# Altium integrated library Atmel CPLD Proprietary.IntLib: 178 symbols (part 4 of 5)
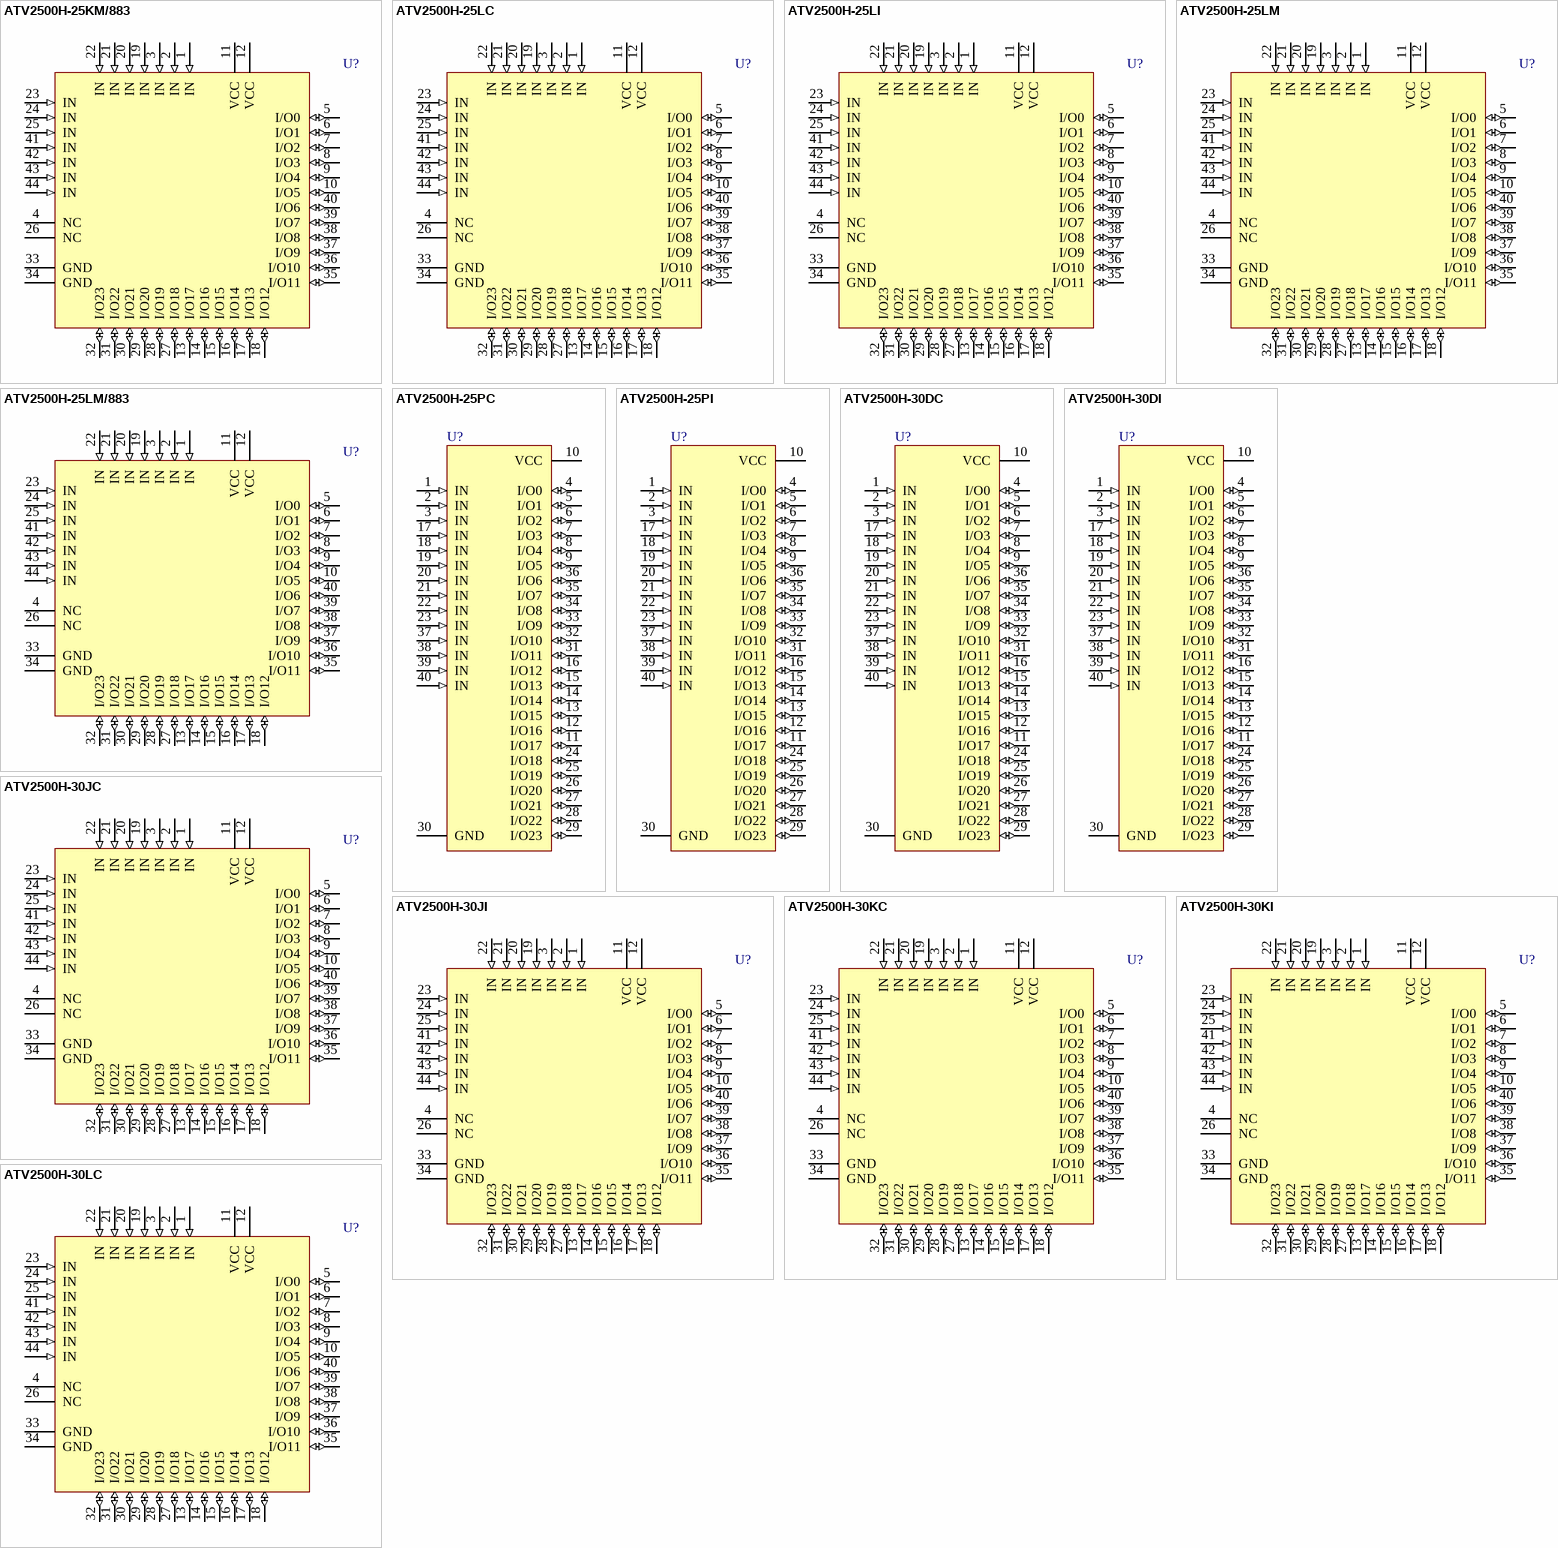
[diagram p13: symbols ATV2500H-25KM/883 to ATV2500H-30LC]

## ATV2500H-25LC
designator U?
ATV2500H 5.0V CPLD, 24 Macrocells, 44-pad Windowed LCC, Speed Grade 25, Commercial Grade; Note: Pin 4 and pin 26 are not internally connected.; DatasheetVersion: Rev. 0025E-05/98; PackageVersion: 1/12/1999; PackageReference: 44LW; PackageDescription: 44-Pin Window Ceramic Leadless Chip Carrier 1.27 mm Pitch; ComponentLink1Description: Manufacturer URL; ComponentLink1URL: http://www.atmel.com/
footprint 44LW_N (Leadless Chip Carrier, 44-Leads, Body 16.5x16.5mm, Pitch 1.27mm, IPC Medium Density)
footprint 44LW_L (Leadless Chip Carrier, 44-Leads, Body 16.5x16.5mm, Pitch 1.27mm, IPC High Density)
footprint 44LW_M (Leadless Chip Carrier, 44-Leads, Body 16.5x16.5mm, Pitch 1.27mm, IPC Low Density)
pins: 1 IN (in), 2 IN (in), 3 IN (in), 4 NC, 5 I/O0 (io), 6 I/O1 (io), 7 I/O2 (io), 8 I/O3 (io), 9 I/O4 (io), 10 I/O5 (io), 11 VCC (power), 12 VCC (power), 13 I/O17 (io), 14 I/O16 (io), 15 I/O15 (io), 16 I/O14 (io), 17 I/O13 (io), 18 I/O12 (io), 19 IN (in), 20 IN (in), 21 IN (in), 22 IN (in), 23 IN (in), 24 IN (in), 25 IN (in), 26 NC, 27 I/O18 (io), 28 I/O19 (io), 29 I/O20 (io), 30 I/O21 (io), 31 I/O22 (io), 32 I/O23 (io), 33 GND (power), 34 GND (power), 35 I/O11 (io), 36 I/O10 (io), 37 I/O9 (io), 38 I/O8 (io), 39 I/O7 (io), 40 I/O6 (io), 41 IN (in), 42 IN (in), 43 IN (in), 44 IN (in)

## ATV2500H-25LI
designator U?
ATV2500H 5.0V CPLD, 24 Macrocells, 44-pad Windowed LCC, Speed Grade 25, Industrial Grade; Note: Pin 4 and pin 26 are not internally connected.; DatasheetVersion: Rev. 0025E-05/98; PackageVersion: 1/12/1999; PackageReference: 44LW; PackageDescription: 44-Pin Window Ceramic Leadless Chip Carrier 1.27 mm Pitch; ComponentLink1Description: Manufacturer URL; ComponentLink1URL: http://www.atmel.com/
footprint 44LW_N (Leadless Chip Carrier, 44-Leads, Body 16.5x16.5mm, Pitch 1.27mm, IPC Medium Density)
footprint 44LW_L (Leadless Chip Carrier, 44-Leads, Body 16.5x16.5mm, Pitch 1.27mm, IPC High Density)
footprint 44LW_M (Leadless Chip Carrier, 44-Leads, Body 16.5x16.5mm, Pitch 1.27mm, IPC Low Density)
pins: 1 IN (in), 2 IN (in), 3 IN (in), 4 NC, 5 I/O0 (io), 6 I/O1 (io), 7 I/O2 (io), 8 I/O3 (io), 9 I/O4 (io), 10 I/O5 (io), 11 VCC (power), 12 VCC (power), 13 I/O17 (io), 14 I/O16 (io), 15 I/O15 (io), 16 I/O14 (io), 17 I/O13 (io), 18 I/O12 (io), 19 IN (in), 20 IN (in), 21 IN (in), 22 IN (in), 23 IN (in), 24 IN (in), 25 IN (in), 26 NC, 27 I/O18 (io), 28 I/O19 (io), 29 I/O20 (io), 30 I/O21 (io), 31 I/O22 (io), 32 I/O23 (io), 33 GND (power), 34 GND (power), 35 I/O11 (io), 36 I/O10 (io), 37 I/O9 (io), 38 I/O8 (io), 39 I/O7 (io), 40 I/O6 (io), 41 IN (in), 42 IN (in), 43 IN (in), 44 IN (in)

## ATV2500H-25LM
designator U?
ATV2500H 5.0V CPLD, 24 Macrocells, 44-pad Windowed LCC, Speed Grade 25, Military Grade; Note: Pin 4 and pin 26 are not internally connected.; DatasheetVersion: Rev. 0025E-05/98; PackageVersion: 1/12/1999; PackageReference: 44LW; PackageDescription: 44-Pin Window Ceramic Leadless Chip Carrier 1.27 mm Pitch; ComponentLink1Description: Manufacturer URL; ComponentLink1URL: http://www.atmel.com/
footprint 44LW_N (Leadless Chip Carrier, 44-Leads, Body 16.5x16.5mm, Pitch 1.27mm, IPC Medium Density)
footprint 44LW_L (Leadless Chip Carrier, 44-Leads, Body 16.5x16.5mm, Pitch 1.27mm, IPC High Density)
footprint 44LW_M (Leadless Chip Carrier, 44-Leads, Body 16.5x16.5mm, Pitch 1.27mm, IPC Low Density)
pins: 1 IN (in), 2 IN (in), 3 IN (in), 4 NC, 5 I/O0 (io), 6 I/O1 (io), 7 I/O2 (io), 8 I/O3 (io), 9 I/O4 (io), 10 I/O5 (io), 11 VCC (power), 12 VCC (power), 13 I/O17 (io), 14 I/O16 (io), 15 I/O15 (io), 16 I/O14 (io), 17 I/O13 (io), 18 I/O12 (io), 19 IN (in), 20 IN (in), 21 IN (in), 22 IN (in), 23 IN (in), 24 IN (in), 25 IN (in), 26 NC, 27 I/O18 (io), 28 I/O19 (io), 29 I/O20 (io), 30 I/O21 (io), 31 I/O22 (io), 32 I/O23 (io), 33 GND (power), 34 GND (power), 35 I/O11 (io), 36 I/O10 (io), 37 I/O9 (io), 38 I/O8 (io), 39 I/O7 (io), 40 I/O6 (io), 41 IN (in), 42 IN (in), 43 IN (in), 44 IN (in)

## ATV2500H-25LM/883
designator U?
ATV2500H 5.0V CPLD, 24 Macrocells, 44-pad Windowed LCC, Speed Grade 25, Military/883C Grade; Note: Pin 4 and pin 26 are not internally connected.; DatasheetVersion: Rev. 0025E-05/98; PackageVersion: 1/12/1999; PackageReference: 44LW; PackageDescription: 44-Pin Window Ceramic Leadless Chip Carrier 1.27 mm Pitch; ComponentLink1Description: Manufacturer URL; ComponentLink1URL: http://www.atmel.com/
footprint 44LW_N (Leadless Chip Carrier, 44-Leads, Body 16.5x16.5mm, Pitch 1.27mm, IPC Medium Density)
footprint 44LW_L (Leadless Chip Carrier, 44-Leads, Body 16.5x16.5mm, Pitch 1.27mm, IPC High Density)
footprint 44LW_M (Leadless Chip Carrier, 44-Leads, Body 16.5x16.5mm, Pitch 1.27mm, IPC Low Density)
pins: 1 IN (in), 2 IN (in), 3 IN (in), 4 NC, 5 I/O0 (io), 6 I/O1 (io), 7 I/O2 (io), 8 I/O3 (io), 9 I/O4 (io), 10 I/O5 (io), 11 VCC (power), 12 VCC (power), 13 I/O17 (io), 14 I/O16 (io), 15 I/O15 (io), 16 I/O14 (io), 17 I/O13 (io), 18 I/O12 (io), 19 IN (in), 20 IN (in), 21 IN (in), 22 IN (in), 23 IN (in), 24 IN (in), 25 IN (in), 26 NC, 27 I/O18 (io), 28 I/O19 (io), 29 I/O20 (io), 30 I/O21 (io), 31 I/O22 (io), 32 I/O23 (io), 33 GND (power), 34 GND (power), 35 I/O11 (io), 36 I/O10 (io), 37 I/O9 (io), 38 I/O8 (io), 39 I/O7 (io), 40 I/O6 (io), 41 IN (in), 42 IN (in), 43 IN (in), 44 IN (in)

## ATV2500H-25PC
designator U?
ATV2500H 5.0V CPLD, 24 Macrocells, 40-lead PDIP, Speed Grade 25, Commercial Grade; DatasheetVersion: Rev. 0025E-05/98; PackageVersion: revB, Sep-2001; PackageReference: 40P6; PackageDescription: 40-lead (0.600"/15.24mm Wide) Plastic Dual Inline Package (PDIP); Code_JEDEC: MS-011-AC; ComponentLink1Description: Manufacturer URL; ComponentLink1URL: http://www.atmel.com/
footprint 40P6 (DIP, 40-Leads, Row Spacing 15.24mm, Pitch 2.54mm, Body 52.2x13.95mm)
pins: 1 IN (in), 2 IN (in), 3 IN (in), 4 I/O0 (io), 5 I/O1 (io), 6 I/O2 (io), 7 I/O3 (io), 8 I/O4 (io), 9 I/O5 (io), 10 VCC (power), 11 I/O17 (io), 12 I/O16 (io), 13 I/O15 (io), 14 I/O14 (io), 15 I/O13 (io), 16 I/O12 (io), 17 IN (in), 18 IN (in), 19 IN (in), 20 IN (in), 21 IN (in), 22 IN (in), 23 IN (in), 24 I/O18 (io), 25 I/O19 (io), 26 I/O20 (io), 27 I/O21 (io), 28 I/O22 (io), 29 I/O23 (io), 30 GND (power), 31 I/O11 (io), 32 I/O10 (io), 33 I/O9 (io), 34 I/O8 (io), 35 I/O7 (io), 36 I/O6 (io), 37 IN (in), 38 IN (in), 39 IN (in), 40 IN (in)

## ATV2500H-25PI
designator U?
ATV2500H 5.0V CPLD, 24 Macrocells, 40-lead PDIP, Speed Grade 25, Industrial Grade; DatasheetVersion: Rev. 0025E-05/98; PackageVersion: revB, Sep-2001; PackageReference: 40P6; PackageDescription: 40-lead (0.600"/15.24mm Wide) Plastic Dual Inline Package (PDIP); Code_JEDEC: MS-011-AC; ComponentLink1Description: Manufacturer URL; ComponentLink1URL: http://www.atmel.com/
footprint 40P6 (DIP, 40-Leads, Row Spacing 15.24mm, Pitch 2.54mm, Body 52.2x13.95mm)
pins: 1 IN (in), 2 IN (in), 3 IN (in), 4 I/O0 (io), 5 I/O1 (io), 6 I/O2 (io), 7 I/O3 (io), 8 I/O4 (io), 9 I/O5 (io), 10 VCC (power), 11 I/O17 (io), 12 I/O16 (io), 13 I/O15 (io), 14 I/O14 (io), 15 I/O13 (io), 16 I/O12 (io), 17 IN (in), 18 IN (in), 19 IN (in), 20 IN (in), 21 IN (in), 22 IN (in), 23 IN (in), 24 I/O18 (io), 25 I/O19 (io), 26 I/O20 (io), 27 I/O21 (io), 28 I/O22 (io), 29 I/O23 (io), 30 GND (power), 31 I/O11 (io), 32 I/O10 (io), 33 I/O9 (io), 34 I/O8 (io), 35 I/O7 (io), 36 I/O6 (io), 37 IN (in), 38 IN (in), 39 IN (in), 40 IN (in)

## ATV2500H-30DC
designator U?
ATV2500H 5.0V CPLD, 24 Macrocells, 40-lead Windowed CerDIP, Speed Grade 30, Commercial Grade; DatasheetVersion: Rev. 0025E-05/98; PackageVersion: 1/12/1999; PackageReference: 40DW6; PackageDescription: DIP, 40-Pin, Row Spacing 15.24 mm, Pitch 2.54 mm; Code_JEDEC: MS-011-AC; ComponentLink1Description: Manufacturer URL; ComponentLink1URL: http://www.atmel.com/
footprint 40DW6 (DIP, 40-Leads, Row Spacing 15.24mm, Pitch 2.54mm, Body 52.45x15mm)
pins: 1 IN (in), 2 IN (in), 3 IN (in), 4 I/O0 (io), 5 I/O1 (io), 6 I/O2 (io), 7 I/O3 (io), 8 I/O4 (io), 9 I/O5 (io), 10 VCC (power), 11 I/O17 (io), 12 I/O16 (io), 13 I/O15 (io), 14 I/O14 (io), 15 I/O13 (io), 16 I/O12 (io), 17 IN (in), 18 IN (in), 19 IN (in), 20 IN (in), 21 IN (in), 22 IN (in), 23 IN (in), 24 I/O18 (io), 25 I/O19 (io), 26 I/O20 (io), 27 I/O21 (io), 28 I/O22 (io), 29 I/O23 (io), 30 GND (power), 31 I/O11 (io), 32 I/O10 (io), 33 I/O9 (io), 34 I/O8 (io), 35 I/O7 (io), 36 I/O6 (io), 37 IN (in), 38 IN (in), 39 IN (in), 40 IN (in)

## ATV2500H-30DI
designator U?
ATV2500H 5.0V CPLD, 24 Macrocells, 40-lead Windowed CerDIP, Speed Grade 30, Industrial Grade; DatasheetVersion: Rev. 0025E-05/98; PackageVersion: 1/12/1999; PackageReference: 40DW6; PackageDescription: DIP, 40-Pin, Row Spacing 15.24 mm, Pitch 2.54 mm; Code_JEDEC: MS-011-AC; ComponentLink1Description: Manufacturer URL; ComponentLink1URL: http://www.atmel.com/
footprint 40DW6 (DIP, 40-Leads, Row Spacing 15.24mm, Pitch 2.54mm, Body 52.45x15mm)
pins: 1 IN (in), 2 IN (in), 3 IN (in), 4 I/O0 (io), 5 I/O1 (io), 6 I/O2 (io), 7 I/O3 (io), 8 I/O4 (io), 9 I/O5 (io), 10 VCC (power), 11 I/O17 (io), 12 I/O16 (io), 13 I/O15 (io), 14 I/O14 (io), 15 I/O13 (io), 16 I/O12 (io), 17 IN (in), 18 IN (in), 19 IN (in), 20 IN (in), 21 IN (in), 22 IN (in), 23 IN (in), 24 I/O18 (io), 25 I/O19 (io), 26 I/O20 (io), 27 I/O21 (io), 28 I/O22 (io), 29 I/O23 (io), 30 GND (power), 31 I/O11 (io), 32 I/O10 (io), 33 I/O9 (io), 34 I/O8 (io), 35 I/O7 (io), 36 I/O6 (io), 37 IN (in), 38 IN (in), 39 IN (in), 40 IN (in)

## ATV2500H-30JC
designator U?
ATV2500H 5.0V CPLD, 24 Macrocells, 44-lead Non-windowed (OTP) PLCC, Speed Grade 30, Commercial Grade; Note: Pin 4 and pin 26 are not internally connected.; DatasheetVersion: Rev. 0025E-05/98; PackageVersion: rev.B, Oct-2001; PackageReference: 44J; PackageDescription: 44-Pin Plastic J-Leaded Chip Carrier 1.27 mm Pitch (PLCC); Code_JEDEC: MS-018-AC; Code_IPC: PLCC-44; ComponentLink1Description: Manufacturer URL; ComponentLink1URL: http://www.atmel.com/
footprint 44J_N (Leaded Chip Carrier, 44-Leads, Body 16.6x16.6mm, Pitch 1.27mm, IPC Medium Density)
footprint 44J_L (Leaded Chip Carrier, 44-Leads, Body 16.6x16.6mm, Pitch 1.27mm, IPC High Density)
footprint 44J_M (Leaded Chip Carrier, 44-Leads, Body 16.6x16.6mm, Pitch 1.27mm, IPC Low Density)
pins: 1 IN (in), 2 IN (in), 3 IN (in), 4 NC, 5 I/O0 (io), 6 I/O1 (io), 7 I/O2 (io), 8 I/O3 (io), 9 I/O4 (io), 10 I/O5 (io), 11 VCC (power), 12 VCC (power), 13 I/O17 (io), 14 I/O16 (io), 15 I/O15 (io), 16 I/O14 (io), 17 I/O13 (io), 18 I/O12 (io), 19 IN (in), 20 IN (in), 21 IN (in), 22 IN (in), 23 IN (in), 24 IN (in), 25 IN (in), 26 NC, 27 I/O18 (io), 28 I/O19 (io), 29 I/O20 (io), 30 I/O21 (io), 31 I/O22 (io), 32 I/O23 (io), 33 GND (power), 34 GND (power), 35 I/O11 (io), 36 I/O10 (io), 37 I/O9 (io), 38 I/O8 (io), 39 I/O7 (io), 40 I/O6 (io), 41 IN (in), 42 IN (in), 43 IN (in), 44 IN (in)

## ATV2500H-30JI
designator U?
ATV2500H 5.0V CPLD, 24 Macrocells, 44-lead Non-windowed (OTP) PLCC, Speed Grade 30, Industrial Grade; Note: Pin 4 and pin 26 are not internally connected.; DatasheetVersion: Rev. 0025E-05/98; PackageVersion: rev.B, Oct-2001; PackageReference: 44J; PackageDescription: 44-Pin Plastic J-Leaded Chip Carrier 1.27 mm Pitch (PLCC); Code_JEDEC: MS-018-AC; Code_IPC: PLCC-44; ComponentLink1Description: Manufacturer URL; ComponentLink1URL: http://www.atmel.com/
footprint 44J_N (Leaded Chip Carrier, 44-Leads, Body 16.6x16.6mm, Pitch 1.27mm, IPC Medium Density)
footprint 44J_L (Leaded Chip Carrier, 44-Leads, Body 16.6x16.6mm, Pitch 1.27mm, IPC High Density)
footprint 44J_M (Leaded Chip Carrier, 44-Leads, Body 16.6x16.6mm, Pitch 1.27mm, IPC Low Density)
pins: 1 IN (in), 2 IN (in), 3 IN (in), 4 NC, 5 I/O0 (io), 6 I/O1 (io), 7 I/O2 (io), 8 I/O3 (io), 9 I/O4 (io), 10 I/O5 (io), 11 VCC (power), 12 VCC (power), 13 I/O17 (io), 14 I/O16 (io), 15 I/O15 (io), 16 I/O14 (io), 17 I/O13 (io), 18 I/O12 (io), 19 IN (in), 20 IN (in), 21 IN (in), 22 IN (in), 23 IN (in), 24 IN (in), 25 IN (in), 26 NC, 27 I/O18 (io), 28 I/O19 (io), 29 I/O20 (io), 30 I/O21 (io), 31 I/O22 (io), 32 I/O23 (io), 33 GND (power), 34 GND (power), 35 I/O11 (io), 36 I/O10 (io), 37 I/O9 (io), 38 I/O8 (io), 39 I/O7 (io), 40 I/O6 (io), 41 IN (in), 42 IN (in), 43 IN (in), 44 IN (in)

## ATV2500H-30KC
designator U?
ATV2500H 5.0V CPLD, 24 Macrocells, 44-lead Windowed JLCC, Speed Grade 30, Commercial Grade; Note: Pin 4 and pin 26 are not internally connected.; DatasheetVersion: Rev. 0025E-05/98; PackageVersion: 1/12/1999; PackageReference: 44KW; PackageDescription: 44-Pin Window Ceramic Leaded Chip Carrier 1.27 mm Pitch; Code_IPC: PLCC-44; ComponentLink1Description: Manufacturer URL; ComponentLink1URL: http://www.atmel.com/
footprint 44KW_N (Leaded Chip Carrier, 44-Leads, Body 16.7x16.7mm, Pitch 1.27mm, IPC Medium Density)
footprint 44KW_L (Leaded Chip Carrier, 44-Leads, Body 16.7x16.7mm, Pitch 1.27mm, IPC High Density)
footprint 44KW_M (Leaded Chip Carrier, 44-Leads, Body 16.7x16.7mm, Pitch 1.27mm, IPC Low Density)
pins: 1 IN (in), 2 IN (in), 3 IN (in), 4 NC, 5 I/O0 (io), 6 I/O1 (io), 7 I/O2 (io), 8 I/O3 (io), 9 I/O4 (io), 10 I/O5 (io), 11 VCC (power), 12 VCC (power), 13 I/O17 (io), 14 I/O16 (io), 15 I/O15 (io), 16 I/O14 (io), 17 I/O13 (io), 18 I/O12 (io), 19 IN (in), 20 IN (in), 21 IN (in), 22 IN (in), 23 IN (in), 24 IN (in), 25 IN (in), 26 NC, 27 I/O18 (io), 28 I/O19 (io), 29 I/O20 (io), 30 I/O21 (io), 31 I/O22 (io), 32 I/O23 (io), 33 GND (power), 34 GND (power), 35 I/O11 (io), 36 I/O10 (io), 37 I/O9 (io), 38 I/O8 (io), 39 I/O7 (io), 40 I/O6 (io), 41 IN (in), 42 IN (in), 43 IN (in), 44 IN (in)

## ATV2500H-30KI
designator U?
ATV2500H 5.0V CPLD, 24 Macrocells, 44-lead Windowed JLCC, Speed Grade 30, Industrial Grade; Note: Pin 4 and pin 26 are not internally connected.; DatasheetVersion: Rev. 0025E-05/98; PackageVersion: 1/12/1999; PackageReference: 44KW; PackageDescription: 44-Pin Window Ceramic Leaded Chip Carrier 1.27 mm Pitch; Code_IPC: PLCC-44; ComponentLink1Description: Manufacturer URL; ComponentLink1URL: http://www.atmel.com/
footprint 44KW_N (Leaded Chip Carrier, 44-Leads, Body 16.7x16.7mm, Pitch 1.27mm, IPC Medium Density)
footprint 44KW_L (Leaded Chip Carrier, 44-Leads, Body 16.7x16.7mm, Pitch 1.27mm, IPC High Density)
footprint 44KW_M (Leaded Chip Carrier, 44-Leads, Body 16.7x16.7mm, Pitch 1.27mm, IPC Low Density)
pins: 1 IN (in), 2 IN (in), 3 IN (in), 4 NC, 5 I/O0 (io), 6 I/O1 (io), 7 I/O2 (io), 8 I/O3 (io), 9 I/O4 (io), 10 I/O5 (io), 11 VCC (power), 12 VCC (power), 13 I/O17 (io), 14 I/O16 (io), 15 I/O15 (io), 16 I/O14 (io), 17 I/O13 (io), 18 I/O12 (io), 19 IN (in), 20 IN (in), 21 IN (in), 22 IN (in), 23 IN (in), 24 IN (in), 25 IN (in), 26 NC, 27 I/O18 (io), 28 I/O19 (io), 29 I/O20 (io), 30 I/O21 (io), 31 I/O22 (io), 32 I/O23 (io), 33 GND (power), 34 GND (power), 35 I/O11 (io), 36 I/O10 (io), 37 I/O9 (io), 38 I/O8 (io), 39 I/O7 (io), 40 I/O6 (io), 41 IN (in), 42 IN (in), 43 IN (in), 44 IN (in)

## ATV2500H-30LC
designator U?
ATV2500H 5.0V CPLD, 24 Macrocells, 44-pad Windowed LCC, Speed Grade 30, Commercial Grade; Note: Pin 4 and pin 26 are not internally connected.; DatasheetVersion: Rev. 0025E-05/98; PackageVersion: 1/12/1999; PackageReference: 44LW; PackageDescription: 44-Pin Window Ceramic Leadless Chip Carrier 1.27 mm Pitch; ComponentLink1Description: Manufacturer URL; ComponentLink1URL: http://www.atmel.com/
footprint 44LW_N (Leadless Chip Carrier, 44-Leads, Body 16.5x16.5mm, Pitch 1.27mm, IPC Medium Density)
footprint 44LW_L (Leadless Chip Carrier, 44-Leads, Body 16.5x16.5mm, Pitch 1.27mm, IPC High Density)
footprint 44LW_M (Leadless Chip Carrier, 44-Leads, Body 16.5x16.5mm, Pitch 1.27mm, IPC Low Density)
pins: 1 IN (in), 2 IN (in), 3 IN (in), 4 NC, 5 I/O0 (io), 6 I/O1 (io), 7 I/O2 (io), 8 I/O3 (io), 9 I/O4 (io), 10 I/O5 (io), 11 VCC (power), 12 VCC (power), 13 I/O17 (io), 14 I/O16 (io), 15 I/O15 (io), 16 I/O14 (io), 17 I/O13 (io), 18 I/O12 (io), 19 IN (in), 20 IN (in), 21 IN (in), 22 IN (in), 23 IN (in), 24 IN (in), 25 IN (in), 26 NC, 27 I/O18 (io), 28 I/O19 (io), 29 I/O20 (io), 30 I/O21 (io), 31 I/O22 (io), 32 I/O23 (io), 33 GND (power), 34 GND (power), 35 I/O11 (io), 36 I/O10 (io), 37 I/O9 (io), 38 I/O8 (io), 39 I/O7 (io), 40 I/O6 (io), 41 IN (in), 42 IN (in), 43 IN (in), 44 IN (in)

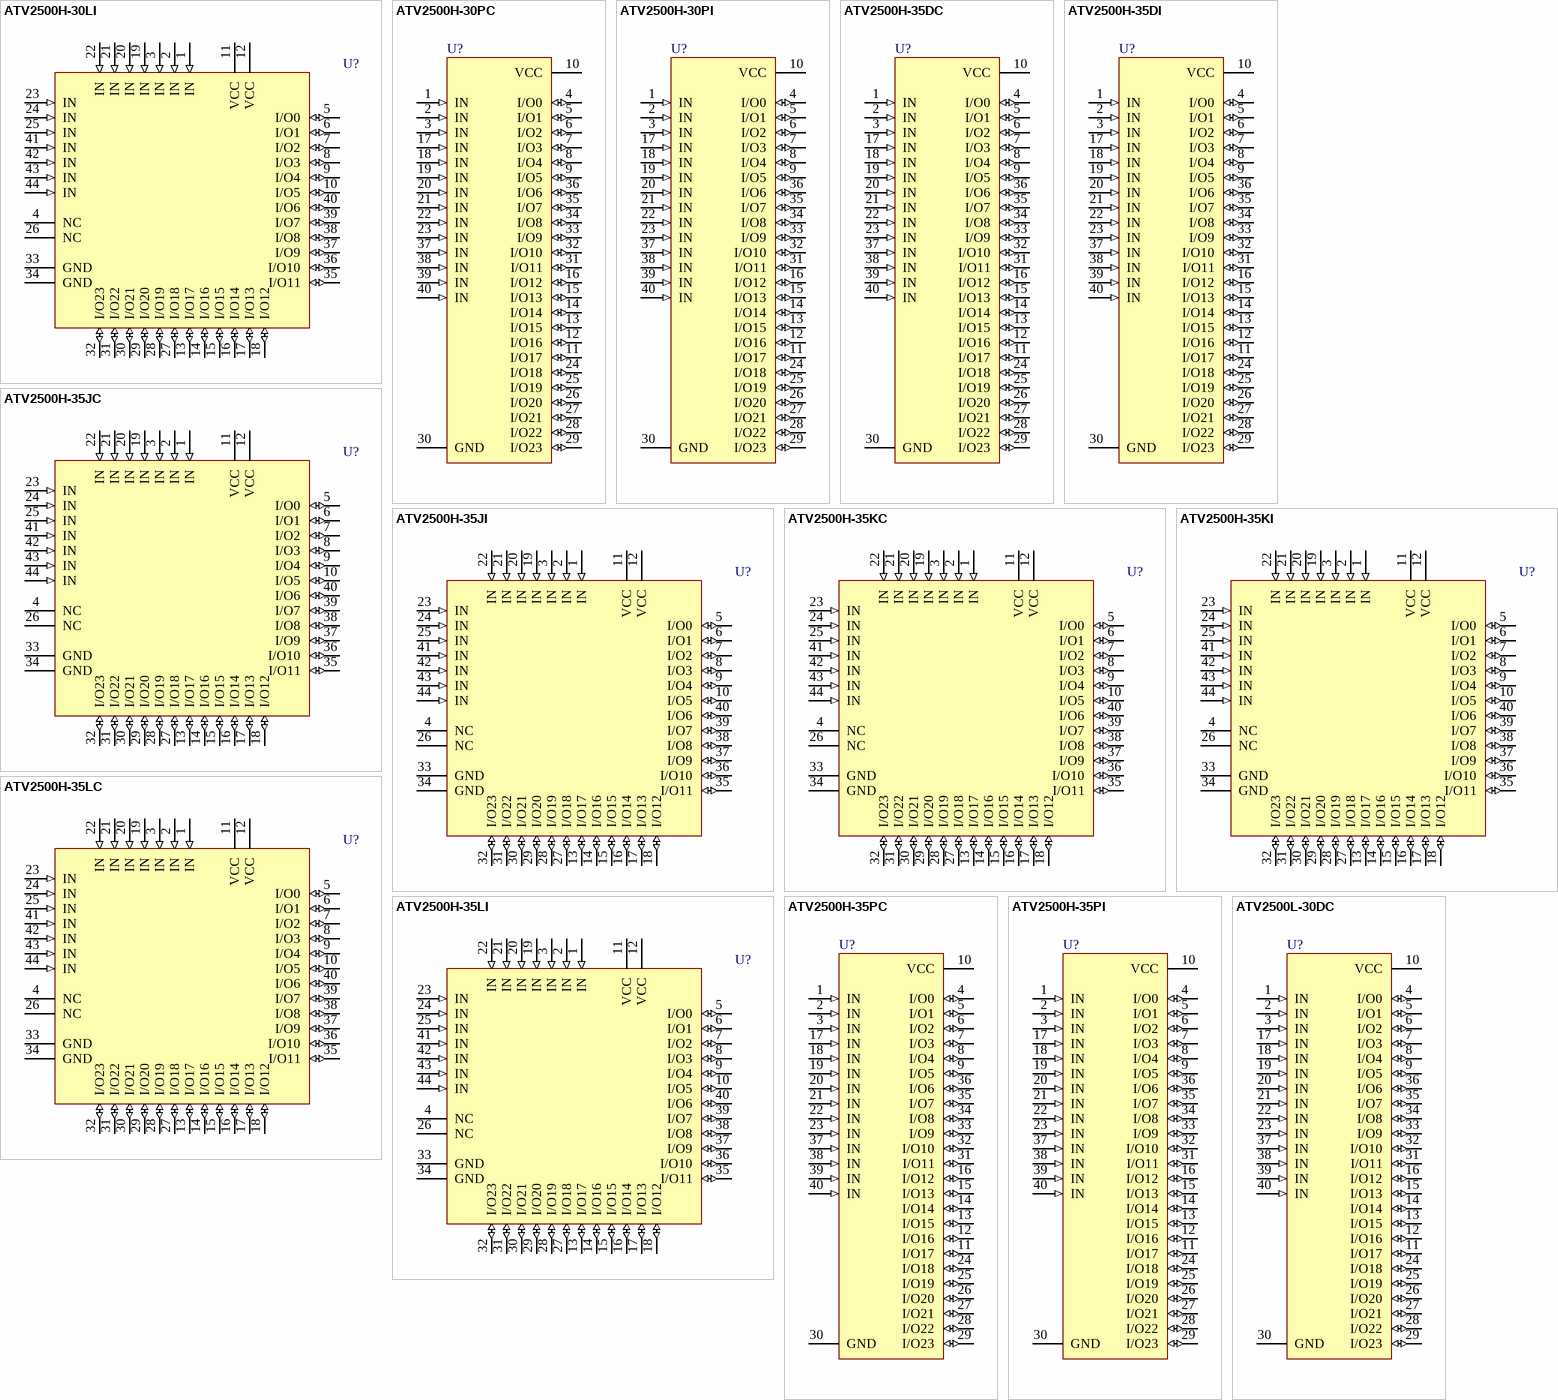
[diagram p8: symbols ATV2500H-30LI to ATV2500L-30DC]

## ATV2500H-30LI
designator U?
ATV2500H 5.0V CPLD, 24 Macrocells, 44-pad Windowed LCC, Speed Grade 30, Industrial Grade; Note: Pin 4 and pin 26 are not internally connected.; DatasheetVersion: Rev. 0025E-05/98; PackageVersion: 1/12/1999; PackageReference: 44LW; PackageDescription: 44-Pin Window Ceramic Leadless Chip Carrier 1.27 mm Pitch; ComponentLink1Description: Manufacturer URL; ComponentLink1URL: http://www.atmel.com/
footprint 44LW_N (Leadless Chip Carrier, 44-Leads, Body 16.5x16.5mm, Pitch 1.27mm, IPC Medium Density)
footprint 44LW_L (Leadless Chip Carrier, 44-Leads, Body 16.5x16.5mm, Pitch 1.27mm, IPC High Density)
footprint 44LW_M (Leadless Chip Carrier, 44-Leads, Body 16.5x16.5mm, Pitch 1.27mm, IPC Low Density)
pins: 1 IN (in), 2 IN (in), 3 IN (in), 4 NC, 5 I/O0 (io), 6 I/O1 (io), 7 I/O2 (io), 8 I/O3 (io), 9 I/O4 (io), 10 I/O5 (io), 11 VCC (power), 12 VCC (power), 13 I/O17 (io), 14 I/O16 (io), 15 I/O15 (io), 16 I/O14 (io), 17 I/O13 (io), 18 I/O12 (io), 19 IN (in), 20 IN (in), 21 IN (in), 22 IN (in), 23 IN (in), 24 IN (in), 25 IN (in), 26 NC, 27 I/O18 (io), 28 I/O19 (io), 29 I/O20 (io), 30 I/O21 (io), 31 I/O22 (io), 32 I/O23 (io), 33 GND (power), 34 GND (power), 35 I/O11 (io), 36 I/O10 (io), 37 I/O9 (io), 38 I/O8 (io), 39 I/O7 (io), 40 I/O6 (io), 41 IN (in), 42 IN (in), 43 IN (in), 44 IN (in)

## ATV2500H-30PC
designator U?
ATV2500H 5.0V CPLD, 24 Macrocells, 40-lead PDIP, Speed Grade 30, Commercial Grade; DatasheetVersion: Rev. 0025E-05/98; PackageVersion: revB, Sep-2001; PackageReference: 40P6; PackageDescription: 40-lead (0.600"/15.24mm Wide) Plastic Dual Inline Package (PDIP); Code_JEDEC: MS-011-AC; ComponentLink1Description: Manufacturer URL; ComponentLink1URL: http://www.atmel.com/
footprint 40P6 (DIP, 40-Leads, Row Spacing 15.24mm, Pitch 2.54mm, Body 52.2x13.95mm)
pins: 1 IN (in), 2 IN (in), 3 IN (in), 4 I/O0 (io), 5 I/O1 (io), 6 I/O2 (io), 7 I/O3 (io), 8 I/O4 (io), 9 I/O5 (io), 10 VCC (power), 11 I/O17 (io), 12 I/O16 (io), 13 I/O15 (io), 14 I/O14 (io), 15 I/O13 (io), 16 I/O12 (io), 17 IN (in), 18 IN (in), 19 IN (in), 20 IN (in), 21 IN (in), 22 IN (in), 23 IN (in), 24 I/O18 (io), 25 I/O19 (io), 26 I/O20 (io), 27 I/O21 (io), 28 I/O22 (io), 29 I/O23 (io), 30 GND (power), 31 I/O11 (io), 32 I/O10 (io), 33 I/O9 (io), 34 I/O8 (io), 35 I/O7 (io), 36 I/O6 (io), 37 IN (in), 38 IN (in), 39 IN (in), 40 IN (in)

## ATV2500H-30PI
designator U?
ATV2500H 5.0V CPLD, 24 Macrocells, 40-lead PDIP, Speed Grade 30, Industrial Grade; DatasheetVersion: Rev. 0025E-05/98; PackageVersion: revB, Sep-2001; PackageReference: 40P6; PackageDescription: 40-lead (0.600"/15.24mm Wide) Plastic Dual Inline Package (PDIP); Code_JEDEC: MS-011-AC; ComponentLink1Description: Manufacturer URL; ComponentLink1URL: http://www.atmel.com/
footprint 40P6 (DIP, 40-Leads, Row Spacing 15.24mm, Pitch 2.54mm, Body 52.2x13.95mm)
pins: 1 IN (in), 2 IN (in), 3 IN (in), 4 I/O0 (io), 5 I/O1 (io), 6 I/O2 (io), 7 I/O3 (io), 8 I/O4 (io), 9 I/O5 (io), 10 VCC (power), 11 I/O17 (io), 12 I/O16 (io), 13 I/O15 (io), 14 I/O14 (io), 15 I/O13 (io), 16 I/O12 (io), 17 IN (in), 18 IN (in), 19 IN (in), 20 IN (in), 21 IN (in), 22 IN (in), 23 IN (in), 24 I/O18 (io), 25 I/O19 (io), 26 I/O20 (io), 27 I/O21 (io), 28 I/O22 (io), 29 I/O23 (io), 30 GND (power), 31 I/O11 (io), 32 I/O10 (io), 33 I/O9 (io), 34 I/O8 (io), 35 I/O7 (io), 36 I/O6 (io), 37 IN (in), 38 IN (in), 39 IN (in), 40 IN (in)

## ATV2500H-35DC
designator U?
ATV2500H 5.0V CPLD, 24 Macrocells, 40-lead Windowed CerDIP, Speed Grade 35, Commercial Grade; DatasheetVersion: Rev. 0025E-05/98; PackageVersion: 1/12/1999; PackageReference: 40DW6; PackageDescription: DIP, 40-Pin, Row Spacing 15.24 mm, Pitch 2.54 mm; Code_JEDEC: MS-011-AC; ComponentLink1Description: Manufacturer URL; ComponentLink1URL: http://www.atmel.com/
footprint 40DW6 (DIP, 40-Leads, Row Spacing 15.24mm, Pitch 2.54mm, Body 52.45x15mm)
pins: 1 IN (in), 2 IN (in), 3 IN (in), 4 I/O0 (io), 5 I/O1 (io), 6 I/O2 (io), 7 I/O3 (io), 8 I/O4 (io), 9 I/O5 (io), 10 VCC (power), 11 I/O17 (io), 12 I/O16 (io), 13 I/O15 (io), 14 I/O14 (io), 15 I/O13 (io), 16 I/O12 (io), 17 IN (in), 18 IN (in), 19 IN (in), 20 IN (in), 21 IN (in), 22 IN (in), 23 IN (in), 24 I/O18 (io), 25 I/O19 (io), 26 I/O20 (io), 27 I/O21 (io), 28 I/O22 (io), 29 I/O23 (io), 30 GND (power), 31 I/O11 (io), 32 I/O10 (io), 33 I/O9 (io), 34 I/O8 (io), 35 I/O7 (io), 36 I/O6 (io), 37 IN (in), 38 IN (in), 39 IN (in), 40 IN (in)

## ATV2500H-35DI
designator U?
ATV2500H 5.0V CPLD, 24 Macrocells, 40-lead Windowed CerDIP, Speed Grade 35, Industrial Grade; DatasheetVersion: Rev. 0025E-05/98; PackageVersion: 1/12/1999; PackageReference: 40DW6; PackageDescription: DIP, 40-Pin, Row Spacing 15.24 mm, Pitch 2.54 mm; Code_JEDEC: MS-011-AC; ComponentLink1Description: Manufacturer URL; ComponentLink1URL: http://www.atmel.com/
footprint 40DW6 (DIP, 40-Leads, Row Spacing 15.24mm, Pitch 2.54mm, Body 52.45x15mm)
pins: 1 IN (in), 2 IN (in), 3 IN (in), 4 I/O0 (io), 5 I/O1 (io), 6 I/O2 (io), 7 I/O3 (io), 8 I/O4 (io), 9 I/O5 (io), 10 VCC (power), 11 I/O17 (io), 12 I/O16 (io), 13 I/O15 (io), 14 I/O14 (io), 15 I/O13 (io), 16 I/O12 (io), 17 IN (in), 18 IN (in), 19 IN (in), 20 IN (in), 21 IN (in), 22 IN (in), 23 IN (in), 24 I/O18 (io), 25 I/O19 (io), 26 I/O20 (io), 27 I/O21 (io), 28 I/O22 (io), 29 I/O23 (io), 30 GND (power), 31 I/O11 (io), 32 I/O10 (io), 33 I/O9 (io), 34 I/O8 (io), 35 I/O7 (io), 36 I/O6 (io), 37 IN (in), 38 IN (in), 39 IN (in), 40 IN (in)

## ATV2500H-35JC
designator U?
ATV2500H 5.0V CPLD, 24 Macrocells, 44-lead Non-windowed (OTP) PLCC, Speed Grade 35, Commercial Grade; Note: Pin 4 and pin 26 are not internally connected.; DatasheetVersion: Rev. 0025E-05/98; PackageVersion: rev.B, Oct-2001; PackageReference: 44J; PackageDescription: 44-Pin Plastic J-Leaded Chip Carrier 1.27 mm Pitch (PLCC); Code_JEDEC: MS-018-AC; Code_IPC: PLCC-44; ComponentLink1Description: Manufacturer URL; ComponentLink1URL: http://www.atmel.com/
footprint 44J_N (Leaded Chip Carrier, 44-Leads, Body 16.6x16.6mm, Pitch 1.27mm, IPC Medium Density)
footprint 44J_L (Leaded Chip Carrier, 44-Leads, Body 16.6x16.6mm, Pitch 1.27mm, IPC High Density)
footprint 44J_M (Leaded Chip Carrier, 44-Leads, Body 16.6x16.6mm, Pitch 1.27mm, IPC Low Density)
pins: 1 IN (in), 2 IN (in), 3 IN (in), 4 NC, 5 I/O0 (io), 6 I/O1 (io), 7 I/O2 (io), 8 I/O3 (io), 9 I/O4 (io), 10 I/O5 (io), 11 VCC (power), 12 VCC (power), 13 I/O17 (io), 14 I/O16 (io), 15 I/O15 (io), 16 I/O14 (io), 17 I/O13 (io), 18 I/O12 (io), 19 IN (in), 20 IN (in), 21 IN (in), 22 IN (in), 23 IN (in), 24 IN (in), 25 IN (in), 26 NC, 27 I/O18 (io), 28 I/O19 (io), 29 I/O20 (io), 30 I/O21 (io), 31 I/O22 (io), 32 I/O23 (io), 33 GND (power), 34 GND (power), 35 I/O11 (io), 36 I/O10 (io), 37 I/O9 (io), 38 I/O8 (io), 39 I/O7 (io), 40 I/O6 (io), 41 IN (in), 42 IN (in), 43 IN (in), 44 IN (in)

## ATV2500H-35JI
designator U?
ATV2500H 5.0V CPLD, 24 Macrocells, 44-lead Non-windowed (OTP) PLCC, Speed Grade 35, Industrial Grade; Note: Pin 4 and pin 26 are not internally connected.; DatasheetVersion: Rev. 0025E-05/98; PackageVersion: rev.B, Oct-2001; PackageReference: 44J; PackageDescription: 44-Pin Plastic J-Leaded Chip Carrier 1.27 mm Pitch (PLCC); Code_JEDEC: MS-018-AC; Code_IPC: PLCC-44; ComponentLink1Description: Manufacturer URL; ComponentLink1URL: http://www.atmel.com/
footprint 44J_N (Leaded Chip Carrier, 44-Leads, Body 16.6x16.6mm, Pitch 1.27mm, IPC Medium Density)
footprint 44J_L (Leaded Chip Carrier, 44-Leads, Body 16.6x16.6mm, Pitch 1.27mm, IPC High Density)
footprint 44J_M (Leaded Chip Carrier, 44-Leads, Body 16.6x16.6mm, Pitch 1.27mm, IPC Low Density)
pins: 1 IN (in), 2 IN (in), 3 IN (in), 4 NC, 5 I/O0 (io), 6 I/O1 (io), 7 I/O2 (io), 8 I/O3 (io), 9 I/O4 (io), 10 I/O5 (io), 11 VCC (power), 12 VCC (power), 13 I/O17 (io), 14 I/O16 (io), 15 I/O15 (io), 16 I/O14 (io), 17 I/O13 (io), 18 I/O12 (io), 19 IN (in), 20 IN (in), 21 IN (in), 22 IN (in), 23 IN (in), 24 IN (in), 25 IN (in), 26 NC, 27 I/O18 (io), 28 I/O19 (io), 29 I/O20 (io), 30 I/O21 (io), 31 I/O22 (io), 32 I/O23 (io), 33 GND (power), 34 GND (power), 35 I/O11 (io), 36 I/O10 (io), 37 I/O9 (io), 38 I/O8 (io), 39 I/O7 (io), 40 I/O6 (io), 41 IN (in), 42 IN (in), 43 IN (in), 44 IN (in)

## ATV2500H-35KC
designator U?
ATV2500H 5.0V CPLD, 24 Macrocells, 44-lead Windowed JLCC, Speed Grade 35, Commercial Grade; Note: Pin 4 and pin 26 are not internally connected.; DatasheetVersion: Rev. 0025E-05/98; PackageVersion: 1/12/1999; PackageReference: 44KW; PackageDescription: 44-Pin Window Ceramic Leaded Chip Carrier 1.27 mm Pitch; Code_IPC: PLCC-44; ComponentLink1Description: Manufacturer URL; ComponentLink1URL: http://www.atmel.com/
footprint 44KW_N (Leaded Chip Carrier, 44-Leads, Body 16.7x16.7mm, Pitch 1.27mm, IPC Medium Density)
footprint 44KW_L (Leaded Chip Carrier, 44-Leads, Body 16.7x16.7mm, Pitch 1.27mm, IPC High Density)
footprint 44KW_M (Leaded Chip Carrier, 44-Leads, Body 16.7x16.7mm, Pitch 1.27mm, IPC Low Density)
pins: 1 IN (in), 2 IN (in), 3 IN (in), 4 NC, 5 I/O0 (io), 6 I/O1 (io), 7 I/O2 (io), 8 I/O3 (io), 9 I/O4 (io), 10 I/O5 (io), 11 VCC (power), 12 VCC (power), 13 I/O17 (io), 14 I/O16 (io), 15 I/O15 (io), 16 I/O14 (io), 17 I/O13 (io), 18 I/O12 (io), 19 IN (in), 20 IN (in), 21 IN (in), 22 IN (in), 23 IN (in), 24 IN (in), 25 IN (in), 26 NC, 27 I/O18 (io), 28 I/O19 (io), 29 I/O20 (io), 30 I/O21 (io), 31 I/O22 (io), 32 I/O23 (io), 33 GND (power), 34 GND (power), 35 I/O11 (io), 36 I/O10 (io), 37 I/O9 (io), 38 I/O8 (io), 39 I/O7 (io), 40 I/O6 (io), 41 IN (in), 42 IN (in), 43 IN (in), 44 IN (in)

## ATV2500H-35KI
designator U?
ATV2500H 5.0V CPLD, 24 Macrocells, 44-lead Windowed JLCC, Speed Grade 35, Industrial Grade; Note: Pin 4 and pin 26 are not internally connected.; DatasheetVersion: Rev. 0025E-05/98; PackageVersion: 1/12/1999; PackageReference: 44KW; PackageDescription: 44-Pin Window Ceramic Leaded Chip Carrier 1.27 mm Pitch; Code_IPC: PLCC-44; ComponentLink1Description: Manufacturer URL; ComponentLink1URL: http://www.atmel.com/
footprint 44KW_N (Leaded Chip Carrier, 44-Leads, Body 16.7x16.7mm, Pitch 1.27mm, IPC Medium Density)
footprint 44KW_L (Leaded Chip Carrier, 44-Leads, Body 16.7x16.7mm, Pitch 1.27mm, IPC High Density)
footprint 44KW_M (Leaded Chip Carrier, 44-Leads, Body 16.7x16.7mm, Pitch 1.27mm, IPC Low Density)
pins: 1 IN (in), 2 IN (in), 3 IN (in), 4 NC, 5 I/O0 (io), 6 I/O1 (io), 7 I/O2 (io), 8 I/O3 (io), 9 I/O4 (io), 10 I/O5 (io), 11 VCC (power), 12 VCC (power), 13 I/O17 (io), 14 I/O16 (io), 15 I/O15 (io), 16 I/O14 (io), 17 I/O13 (io), 18 I/O12 (io), 19 IN (in), 20 IN (in), 21 IN (in), 22 IN (in), 23 IN (in), 24 IN (in), 25 IN (in), 26 NC, 27 I/O18 (io), 28 I/O19 (io), 29 I/O20 (io), 30 I/O21 (io), 31 I/O22 (io), 32 I/O23 (io), 33 GND (power), 34 GND (power), 35 I/O11 (io), 36 I/O10 (io), 37 I/O9 (io), 38 I/O8 (io), 39 I/O7 (io), 40 I/O6 (io), 41 IN (in), 42 IN (in), 43 IN (in), 44 IN (in)

## ATV2500H-35LC
designator U?
ATV2500H 5.0V CPLD, 24 Macrocells, 44-pad Windowed LCC, Speed Grade 35, Commercial Grade; Note: Pin 4 and pin 26 are not internally connected.; DatasheetVersion: Rev. 0025E-05/98; PackageVersion: 1/12/1999; PackageReference: 44LW; PackageDescription: 44-Pin Window Ceramic Leadless Chip Carrier 1.27 mm Pitch; ComponentLink1Description: Manufacturer URL; ComponentLink1URL: http://www.atmel.com/
footprint 44LW_N (Leadless Chip Carrier, 44-Leads, Body 16.5x16.5mm, Pitch 1.27mm, IPC Medium Density)
footprint 44LW_L (Leadless Chip Carrier, 44-Leads, Body 16.5x16.5mm, Pitch 1.27mm, IPC High Density)
footprint 44LW_M (Leadless Chip Carrier, 44-Leads, Body 16.5x16.5mm, Pitch 1.27mm, IPC Low Density)
pins: 1 IN (in), 2 IN (in), 3 IN (in), 4 NC, 5 I/O0 (io), 6 I/O1 (io), 7 I/O2 (io), 8 I/O3 (io), 9 I/O4 (io), 10 I/O5 (io), 11 VCC (power), 12 VCC (power), 13 I/O17 (io), 14 I/O16 (io), 15 I/O15 (io), 16 I/O14 (io), 17 I/O13 (io), 18 I/O12 (io), 19 IN (in), 20 IN (in), 21 IN (in), 22 IN (in), 23 IN (in), 24 IN (in), 25 IN (in), 26 NC, 27 I/O18 (io), 28 I/O19 (io), 29 I/O20 (io), 30 I/O21 (io), 31 I/O22 (io), 32 I/O23 (io), 33 GND (power), 34 GND (power), 35 I/O11 (io), 36 I/O10 (io), 37 I/O9 (io), 38 I/O8 (io), 39 I/O7 (io), 40 I/O6 (io), 41 IN (in), 42 IN (in), 43 IN (in), 44 IN (in)

## ATV2500H-35LI
designator U?
ATV2500H 5.0V CPLD, 24 Macrocells, 44-pad Windowed LCC, Speed Grade 35, Industrial Grade; Note: Pin 4 and pin 26 are not internally connected.; DatasheetVersion: Rev. 0025E-05/98; PackageVersion: 1/12/1999; PackageReference: 44LW; PackageDescription: 44-Pin Window Ceramic Leadless Chip Carrier 1.27 mm Pitch; ComponentLink1Description: Manufacturer URL; ComponentLink1URL: http://www.atmel.com/
footprint 44LW_N (Leadless Chip Carrier, 44-Leads, Body 16.5x16.5mm, Pitch 1.27mm, IPC Medium Density)
footprint 44LW_L (Leadless Chip Carrier, 44-Leads, Body 16.5x16.5mm, Pitch 1.27mm, IPC High Density)
footprint 44LW_M (Leadless Chip Carrier, 44-Leads, Body 16.5x16.5mm, Pitch 1.27mm, IPC Low Density)
pins: 1 IN (in), 2 IN (in), 3 IN (in), 4 NC, 5 I/O0 (io), 6 I/O1 (io), 7 I/O2 (io), 8 I/O3 (io), 9 I/O4 (io), 10 I/O5 (io), 11 VCC (power), 12 VCC (power), 13 I/O17 (io), 14 I/O16 (io), 15 I/O15 (io), 16 I/O14 (io), 17 I/O13 (io), 18 I/O12 (io), 19 IN (in), 20 IN (in), 21 IN (in), 22 IN (in), 23 IN (in), 24 IN (in), 25 IN (in), 26 NC, 27 I/O18 (io), 28 I/O19 (io), 29 I/O20 (io), 30 I/O21 (io), 31 I/O22 (io), 32 I/O23 (io), 33 GND (power), 34 GND (power), 35 I/O11 (io), 36 I/O10 (io), 37 I/O9 (io), 38 I/O8 (io), 39 I/O7 (io), 40 I/O6 (io), 41 IN (in), 42 IN (in), 43 IN (in), 44 IN (in)

## ATV2500H-35PC
designator U?
ATV2500H 5.0V CPLD, 24 Macrocells, 40-lead PDIP, Speed Grade 35, Commercial Grade; DatasheetVersion: Rev. 0025E-05/98; PackageVersion: revB, Sep-2001; PackageReference: 40P6; PackageDescription: 40-lead (0.600"/15.24mm Wide) Plastic Dual Inline Package (PDIP); Code_JEDEC: MS-011-AC; ComponentLink1Description: Manufacturer URL; ComponentLink1URL: http://www.atmel.com/
footprint 40P6 (DIP, 40-Leads, Row Spacing 15.24mm, Pitch 2.54mm, Body 52.2x13.95mm)
pins: 1 IN (in), 2 IN (in), 3 IN (in), 4 I/O0 (io), 5 I/O1 (io), 6 I/O2 (io), 7 I/O3 (io), 8 I/O4 (io), 9 I/O5 (io), 10 VCC (power), 11 I/O17 (io), 12 I/O16 (io), 13 I/O15 (io), 14 I/O14 (io), 15 I/O13 (io), 16 I/O12 (io), 17 IN (in), 18 IN (in), 19 IN (in), 20 IN (in), 21 IN (in), 22 IN (in), 23 IN (in), 24 I/O18 (io), 25 I/O19 (io), 26 I/O20 (io), 27 I/O21 (io), 28 I/O22 (io), 29 I/O23 (io), 30 GND (power), 31 I/O11 (io), 32 I/O10 (io), 33 I/O9 (io), 34 I/O8 (io), 35 I/O7 (io), 36 I/O6 (io), 37 IN (in), 38 IN (in), 39 IN (in), 40 IN (in)

## ATV2500H-35PI
designator U?
ATV2500H 5.0V CPLD, 24 Macrocells, 40-lead PDIP, Speed Grade 35, Industrial Grade; DatasheetVersion: Rev. 0025E-05/98; PackageVersion: revB, Sep-2001; PackageReference: 40P6; PackageDescription: 40-lead (0.600"/15.24mm Wide) Plastic Dual Inline Package (PDIP); Code_JEDEC: MS-011-AC; ComponentLink1Description: Manufacturer URL; ComponentLink1URL: http://www.atmel.com/
footprint 40P6 (DIP, 40-Leads, Row Spacing 15.24mm, Pitch 2.54mm, Body 52.2x13.95mm)
pins: 1 IN (in), 2 IN (in), 3 IN (in), 4 I/O0 (io), 5 I/O1 (io), 6 I/O2 (io), 7 I/O3 (io), 8 I/O4 (io), 9 I/O5 (io), 10 VCC (power), 11 I/O17 (io), 12 I/O16 (io), 13 I/O15 (io), 14 I/O14 (io), 15 I/O13 (io), 16 I/O12 (io), 17 IN (in), 18 IN (in), 19 IN (in), 20 IN (in), 21 IN (in), 22 IN (in), 23 IN (in), 24 I/O18 (io), 25 I/O19 (io), 26 I/O20 (io), 27 I/O21 (io), 28 I/O22 (io), 29 I/O23 (io), 30 GND (power), 31 I/O11 (io), 32 I/O10 (io), 33 I/O9 (io), 34 I/O8 (io), 35 I/O7 (io), 36 I/O6 (io), 37 IN (in), 38 IN (in), 39 IN (in), 40 IN (in)

## ATV2500L-30DC
designator U?
ATV2500L 5.0V CPLD, 24 Macrocells, 40-lead Windowed CerDIP, Speed Grade 30, Commercial Grade; DatasheetVersion: Rev. 0025E-05/98; PackageVersion: 1/12/1999; PackageReference: 40DW6; PackageDescription: DIP, 40-Pin, Row Spacing 15.24 mm, Pitch 2.54 mm; Code_JEDEC: MS-011-AC; ComponentLink1Description: Manufacturer URL; ComponentLink1URL: http://www.atmel.com/
footprint 40DW6 (DIP, 40-Leads, Row Spacing 15.24mm, Pitch 2.54mm, Body 52.45x15mm)
pins: 1 IN (in), 2 IN (in), 3 IN (in), 4 I/O0 (io), 5 I/O1 (io), 6 I/O2 (io), 7 I/O3 (io), 8 I/O4 (io), 9 I/O5 (io), 10 VCC (power), 11 I/O17 (io), 12 I/O16 (io), 13 I/O15 (io), 14 I/O14 (io), 15 I/O13 (io), 16 I/O12 (io), 17 IN (in), 18 IN (in), 19 IN (in), 20 IN (in), 21 IN (in), 22 IN (in), 23 IN (in), 24 I/O18 (io), 25 I/O19 (io), 26 I/O20 (io), 27 I/O21 (io), 28 I/O22 (io), 29 I/O23 (io), 30 GND (power), 31 I/O11 (io), 32 I/O10 (io), 33 I/O9 (io), 34 I/O8 (io), 35 I/O7 (io), 36 I/O6 (io), 37 IN (in), 38 IN (in), 39 IN (in), 40 IN (in)

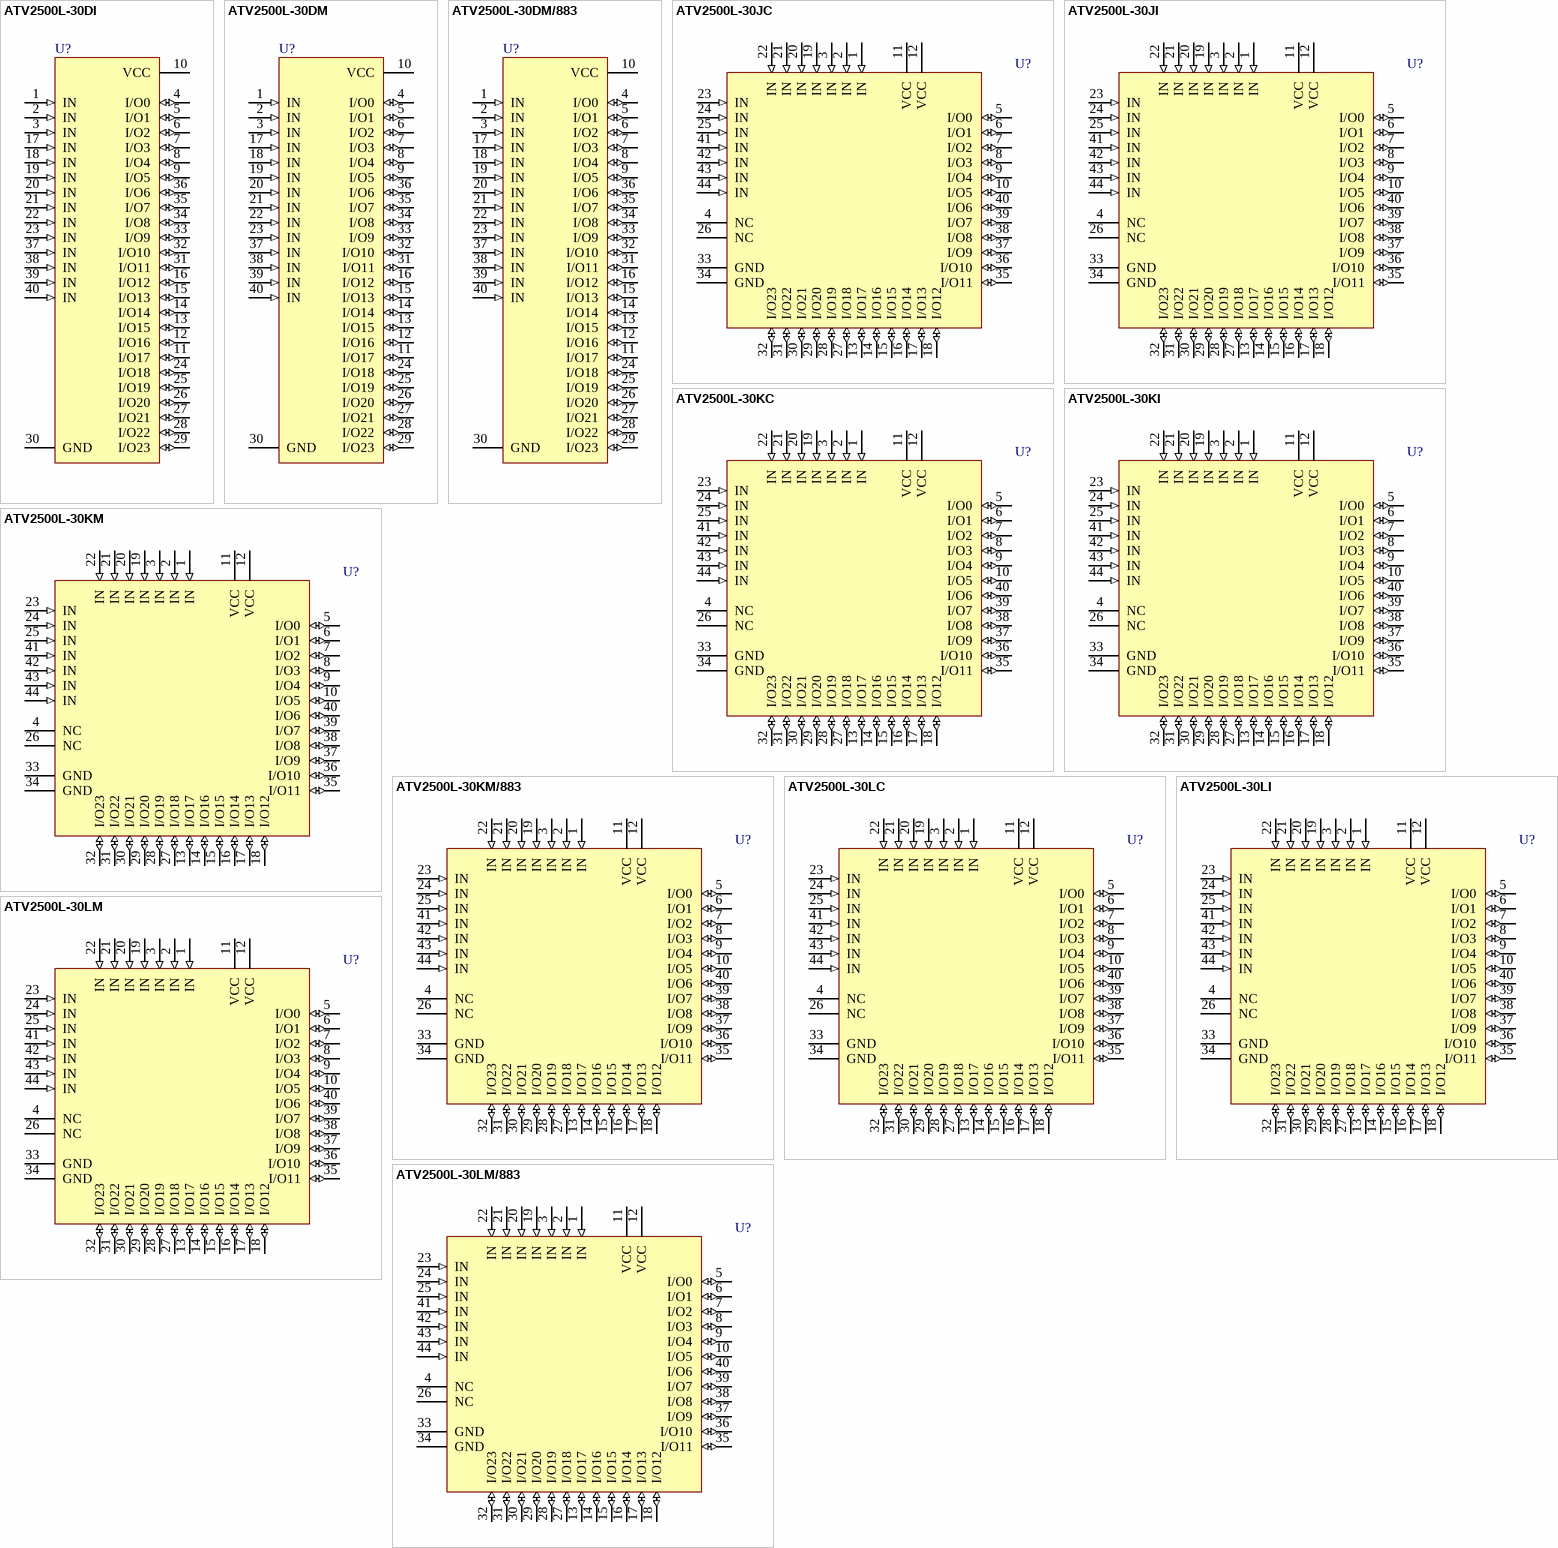
[diagram p9: symbols ATV2500L-30DI to ATV2500L-30LM/883]

## ATV2500L-30DI
designator U?
ATV2500L 5.0V CPLD, 24 Macrocells, 40-lead Windowed CerDIP, Speed Grade 30, Industrial Grade; DatasheetVersion: Rev. 0025E-05/98; PackageVersion: 1/12/1999; PackageReference: 40DW6; PackageDescription: DIP, 40-Pin, Row Spacing 15.24 mm, Pitch 2.54 mm; Code_JEDEC: MS-011-AC; ComponentLink1Description: Manufacturer URL; ComponentLink1URL: http://www.atmel.com/
footprint 40DW6 (DIP, 40-Leads, Row Spacing 15.24mm, Pitch 2.54mm, Body 52.45x15mm)
pins: 1 IN (in), 2 IN (in), 3 IN (in), 4 I/O0 (io), 5 I/O1 (io), 6 I/O2 (io), 7 I/O3 (io), 8 I/O4 (io), 9 I/O5 (io), 10 VCC (power), 11 I/O17 (io), 12 I/O16 (io), 13 I/O15 (io), 14 I/O14 (io), 15 I/O13 (io), 16 I/O12 (io), 17 IN (in), 18 IN (in), 19 IN (in), 20 IN (in), 21 IN (in), 22 IN (in), 23 IN (in), 24 I/O18 (io), 25 I/O19 (io), 26 I/O20 (io), 27 I/O21 (io), 28 I/O22 (io), 29 I/O23 (io), 30 GND (power), 31 I/O11 (io), 32 I/O10 (io), 33 I/O9 (io), 34 I/O8 (io), 35 I/O7 (io), 36 I/O6 (io), 37 IN (in), 38 IN (in), 39 IN (in), 40 IN (in)

## ATV2500L-30DM
designator U?
ATV2500L 5.0V CPLD, 24 Macrocells, 40-lead Windowed CerDIP, Speed Grade 30, Military Grade; DatasheetVersion: Rev. 0025E-05/98; PackageVersion: 1/12/1999; PackageReference: 40DW6; PackageDescription: DIP, 40-Pin, Row Spacing 15.24 mm, Pitch 2.54 mm; Code_JEDEC: MS-011-AC; ComponentLink1Description: Manufacturer URL; ComponentLink1URL: http://www.atmel.com/
footprint 40DW6 (DIP, 40-Leads, Row Spacing 15.24mm, Pitch 2.54mm, Body 52.45x15mm)
pins: 1 IN (in), 2 IN (in), 3 IN (in), 4 I/O0 (io), 5 I/O1 (io), 6 I/O2 (io), 7 I/O3 (io), 8 I/O4 (io), 9 I/O5 (io), 10 VCC (power), 11 I/O17 (io), 12 I/O16 (io), 13 I/O15 (io), 14 I/O14 (io), 15 I/O13 (io), 16 I/O12 (io), 17 IN (in), 18 IN (in), 19 IN (in), 20 IN (in), 21 IN (in), 22 IN (in), 23 IN (in), 24 I/O18 (io), 25 I/O19 (io), 26 I/O20 (io), 27 I/O21 (io), 28 I/O22 (io), 29 I/O23 (io), 30 GND (power), 31 I/O11 (io), 32 I/O10 (io), 33 I/O9 (io), 34 I/O8 (io), 35 I/O7 (io), 36 I/O6 (io), 37 IN (in), 38 IN (in), 39 IN (in), 40 IN (in)

## ATV2500L-30DM/883
designator U?
ATV2500L 5.0V CPLD, 24 Macrocells, 40-lead Windowed CerDIP, Speed Grade 30, Military/883C Grade; DatasheetVersion: Rev. 0025E-05/98; PackageVersion: 1/12/1999; PackageReference: 40DW6; PackageDescription: DIP, 40-Pin, Row Spacing 15.24 mm, Pitch 2.54 mm; Code_JEDEC: MS-011-AC; ComponentLink1Description: Manufacturer URL; ComponentLink1URL: http://www.atmel.com/
footprint 40DW6 (DIP, 40-Leads, Row Spacing 15.24mm, Pitch 2.54mm, Body 52.45x15mm)
pins: 1 IN (in), 2 IN (in), 3 IN (in), 4 I/O0 (io), 5 I/O1 (io), 6 I/O2 (io), 7 I/O3 (io), 8 I/O4 (io), 9 I/O5 (io), 10 VCC (power), 11 I/O17 (io), 12 I/O16 (io), 13 I/O15 (io), 14 I/O14 (io), 15 I/O13 (io), 16 I/O12 (io), 17 IN (in), 18 IN (in), 19 IN (in), 20 IN (in), 21 IN (in), 22 IN (in), 23 IN (in), 24 I/O18 (io), 25 I/O19 (io), 26 I/O20 (io), 27 I/O21 (io), 28 I/O22 (io), 29 I/O23 (io), 30 GND (power), 31 I/O11 (io), 32 I/O10 (io), 33 I/O9 (io), 34 I/O8 (io), 35 I/O7 (io), 36 I/O6 (io), 37 IN (in), 38 IN (in), 39 IN (in), 40 IN (in)

## ATV2500L-30JC
designator U?
ATV2500L 5.0V CPLD, 24 Macrocells, 44-lead Non-windowed (OTP) PLCC, Speed Grade 30, Commercial Grade; Note: Pin 4 and pin 26 are not internally connected.; DatasheetVersion: Rev. 0025E-05/98; PackageVersion: rev.B, Oct-2001; PackageReference: 44J; PackageDescription: 44-Pin Plastic J-Leaded Chip Carrier 1.27 mm Pitch (PLCC); Code_JEDEC: MS-018-AC; Code_IPC: PLCC-44; ComponentLink1Description: Manufacturer URL; ComponentLink1URL: http://www.atmel.com/
footprint 44J_N (Leaded Chip Carrier, 44-Leads, Body 16.6x16.6mm, Pitch 1.27mm, IPC Medium Density)
footprint 44J_L (Leaded Chip Carrier, 44-Leads, Body 16.6x16.6mm, Pitch 1.27mm, IPC High Density)
footprint 44J_M (Leaded Chip Carrier, 44-Leads, Body 16.6x16.6mm, Pitch 1.27mm, IPC Low Density)
pins: 1 IN (in), 2 IN (in), 3 IN (in), 4 NC, 5 I/O0 (io), 6 I/O1 (io), 7 I/O2 (io), 8 I/O3 (io), 9 I/O4 (io), 10 I/O5 (io), 11 VCC (power), 12 VCC (power), 13 I/O17 (io), 14 I/O16 (io), 15 I/O15 (io), 16 I/O14 (io), 17 I/O13 (io), 18 I/O12 (io), 19 IN (in), 20 IN (in), 21 IN (in), 22 IN (in), 23 IN (in), 24 IN (in), 25 IN (in), 26 NC, 27 I/O18 (io), 28 I/O19 (io), 29 I/O20 (io), 30 I/O21 (io), 31 I/O22 (io), 32 I/O23 (io), 33 GND (power), 34 GND (power), 35 I/O11 (io), 36 I/O10 (io), 37 I/O9 (io), 38 I/O8 (io), 39 I/O7 (io), 40 I/O6 (io), 41 IN (in), 42 IN (in), 43 IN (in), 44 IN (in)

## ATV2500L-30JI
designator U?
ATV2500L 5.0V CPLD, 24 Macrocells, 44-lead Non-windowed (OTP) PLCC, Speed Grade 30, Industrial Grade; Note: Pin 4 and pin 26 are not internally connected.; DatasheetVersion: Rev. 0025E-05/98; PackageVersion: rev.B, Oct-2001; PackageReference: 44J; PackageDescription: 44-Pin Plastic J-Leaded Chip Carrier 1.27 mm Pitch (PLCC); Code_JEDEC: MS-018-AC; Code_IPC: PLCC-44; ComponentLink1Description: Manufacturer URL; ComponentLink1URL: http://www.atmel.com/
footprint 44J_N (Leaded Chip Carrier, 44-Leads, Body 16.6x16.6mm, Pitch 1.27mm, IPC Medium Density)
footprint 44J_L (Leaded Chip Carrier, 44-Leads, Body 16.6x16.6mm, Pitch 1.27mm, IPC High Density)
footprint 44J_M (Leaded Chip Carrier, 44-Leads, Body 16.6x16.6mm, Pitch 1.27mm, IPC Low Density)
pins: 1 IN (in), 2 IN (in), 3 IN (in), 4 NC, 5 I/O0 (io), 6 I/O1 (io), 7 I/O2 (io), 8 I/O3 (io), 9 I/O4 (io), 10 I/O5 (io), 11 VCC (power), 12 VCC (power), 13 I/O17 (io), 14 I/O16 (io), 15 I/O15 (io), 16 I/O14 (io), 17 I/O13 (io), 18 I/O12 (io), 19 IN (in), 20 IN (in), 21 IN (in), 22 IN (in), 23 IN (in), 24 IN (in), 25 IN (in), 26 NC, 27 I/O18 (io), 28 I/O19 (io), 29 I/O20 (io), 30 I/O21 (io), 31 I/O22 (io), 32 I/O23 (io), 33 GND (power), 34 GND (power), 35 I/O11 (io), 36 I/O10 (io), 37 I/O9 (io), 38 I/O8 (io), 39 I/O7 (io), 40 I/O6 (io), 41 IN (in), 42 IN (in), 43 IN (in), 44 IN (in)

## ATV2500L-30KC
designator U?
ATV2500L 5.0V CPLD, 24 Macrocells, 44-lead Windowed JLCC, Speed Grade 30, Commercial Grade; Note: Pin 4 and pin 26 are not internally connected.; DatasheetVersion: Rev. 0025E-05/98; PackageVersion: 1/12/1999; PackageReference: 44KW; PackageDescription: 44-Pin Window Ceramic Leaded Chip Carrier 1.27 mm Pitch; Code_IPC: PLCC-44; ComponentLink1Description: Manufacturer URL; ComponentLink1URL: http://www.atmel.com/
footprint 44KW_N (Leaded Chip Carrier, 44-Leads, Body 16.7x16.7mm, Pitch 1.27mm, IPC Medium Density)
footprint 44KW_L (Leaded Chip Carrier, 44-Leads, Body 16.7x16.7mm, Pitch 1.27mm, IPC High Density)
footprint 44KW_M (Leaded Chip Carrier, 44-Leads, Body 16.7x16.7mm, Pitch 1.27mm, IPC Low Density)
pins: 1 IN (in), 2 IN (in), 3 IN (in), 4 NC, 5 I/O0 (io), 6 I/O1 (io), 7 I/O2 (io), 8 I/O3 (io), 9 I/O4 (io), 10 I/O5 (io), 11 VCC (power), 12 VCC (power), 13 I/O17 (io), 14 I/O16 (io), 15 I/O15 (io), 16 I/O14 (io), 17 I/O13 (io), 18 I/O12 (io), 19 IN (in), 20 IN (in), 21 IN (in), 22 IN (in), 23 IN (in), 24 IN (in), 25 IN (in), 26 NC, 27 I/O18 (io), 28 I/O19 (io), 29 I/O20 (io), 30 I/O21 (io), 31 I/O22 (io), 32 I/O23 (io), 33 GND (power), 34 GND (power), 35 I/O11 (io), 36 I/O10 (io), 37 I/O9 (io), 38 I/O8 (io), 39 I/O7 (io), 40 I/O6 (io), 41 IN (in), 42 IN (in), 43 IN (in), 44 IN (in)

## ATV2500L-30KI
designator U?
ATV2500L 5.0V CPLD, 24 Macrocells, 44-lead Windowed JLCC, Speed Grade 30, Industrial Grade; Note: Pin 4 and pin 26 are not internally connected.; DatasheetVersion: Rev. 0025E-05/98; PackageVersion: 1/12/1999; PackageReference: 44KW; PackageDescription: 44-Pin Window Ceramic Leaded Chip Carrier 1.27 mm Pitch; Code_IPC: PLCC-44; ComponentLink1Description: Manufacturer URL; ComponentLink1URL: http://www.atmel.com/
footprint 44KW_N (Leaded Chip Carrier, 44-Leads, Body 16.7x16.7mm, Pitch 1.27mm, IPC Medium Density)
footprint 44KW_L (Leaded Chip Carrier, 44-Leads, Body 16.7x16.7mm, Pitch 1.27mm, IPC High Density)
footprint 44KW_M (Leaded Chip Carrier, 44-Leads, Body 16.7x16.7mm, Pitch 1.27mm, IPC Low Density)
pins: 1 IN (in), 2 IN (in), 3 IN (in), 4 NC, 5 I/O0 (io), 6 I/O1 (io), 7 I/O2 (io), 8 I/O3 (io), 9 I/O4 (io), 10 I/O5 (io), 11 VCC (power), 12 VCC (power), 13 I/O17 (io), 14 I/O16 (io), 15 I/O15 (io), 16 I/O14 (io), 17 I/O13 (io), 18 I/O12 (io), 19 IN (in), 20 IN (in), 21 IN (in), 22 IN (in), 23 IN (in), 24 IN (in), 25 IN (in), 26 NC, 27 I/O18 (io), 28 I/O19 (io), 29 I/O20 (io), 30 I/O21 (io), 31 I/O22 (io), 32 I/O23 (io), 33 GND (power), 34 GND (power), 35 I/O11 (io), 36 I/O10 (io), 37 I/O9 (io), 38 I/O8 (io), 39 I/O7 (io), 40 I/O6 (io), 41 IN (in), 42 IN (in), 43 IN (in), 44 IN (in)

## ATV2500L-30KM
designator U?
ATV2500L 5.0V CPLD, 24 Macrocells, 44-lead Windowed JLCC, Speed Grade 30, Military Grade; Note: Pin 4 and pin 26 are not internally connected.; DatasheetVersion: Rev. 0025E-05/98; PackageVersion: 1/12/1999; PackageReference: 44KW; PackageDescription: 44-Pin Window Ceramic Leaded Chip Carrier 1.27 mm Pitch; Code_IPC: PLCC-44; ComponentLink1Description: Manufacturer URL; ComponentLink1URL: http://www.atmel.com/
footprint 44KW_N (Leaded Chip Carrier, 44-Leads, Body 16.7x16.7mm, Pitch 1.27mm, IPC Medium Density)
footprint 44KW_L (Leaded Chip Carrier, 44-Leads, Body 16.7x16.7mm, Pitch 1.27mm, IPC High Density)
footprint 44KW_M (Leaded Chip Carrier, 44-Leads, Body 16.7x16.7mm, Pitch 1.27mm, IPC Low Density)
pins: 1 IN (in), 2 IN (in), 3 IN (in), 4 NC, 5 I/O0 (io), 6 I/O1 (io), 7 I/O2 (io), 8 I/O3 (io), 9 I/O4 (io), 10 I/O5 (io), 11 VCC (power), 12 VCC (power), 13 I/O17 (io), 14 I/O16 (io), 15 I/O15 (io), 16 I/O14 (io), 17 I/O13 (io), 18 I/O12 (io), 19 IN (in), 20 IN (in), 21 IN (in), 22 IN (in), 23 IN (in), 24 IN (in), 25 IN (in), 26 NC, 27 I/O18 (io), 28 I/O19 (io), 29 I/O20 (io), 30 I/O21 (io), 31 I/O22 (io), 32 I/O23 (io), 33 GND (power), 34 GND (power), 35 I/O11 (io), 36 I/O10 (io), 37 I/O9 (io), 38 I/O8 (io), 39 I/O7 (io), 40 I/O6 (io), 41 IN (in), 42 IN (in), 43 IN (in), 44 IN (in)

## ATV2500L-30KM/883
designator U?
ATV2500L 5.0V CPLD, 24 Macrocells, 44-lead Windowed JLCC, Speed Grade 30, Military/883C Grade; Note: Pin 4 and pin 26 are not internally connected.; DatasheetVersion: Rev. 0025E-05/98; PackageVersion: 1/12/1999; PackageReference: 44KW; PackageDescription: 44-Pin Window Ceramic Leaded Chip Carrier 1.27 mm Pitch; Code_IPC: PLCC-44; ComponentLink1Description: Manufacturer URL; ComponentLink1URL: http://www.atmel.com/
footprint 44KW_N (Leaded Chip Carrier, 44-Leads, Body 16.7x16.7mm, Pitch 1.27mm, IPC Medium Density)
footprint 44KW_L (Leaded Chip Carrier, 44-Leads, Body 16.7x16.7mm, Pitch 1.27mm, IPC High Density)
footprint 44KW_M (Leaded Chip Carrier, 44-Leads, Body 16.7x16.7mm, Pitch 1.27mm, IPC Low Density)
pins: 1 IN (in), 2 IN (in), 3 IN (in), 4 NC, 5 I/O0 (io), 6 I/O1 (io), 7 I/O2 (io), 8 I/O3 (io), 9 I/O4 (io), 10 I/O5 (io), 11 VCC (power), 12 VCC (power), 13 I/O17 (io), 14 I/O16 (io), 15 I/O15 (io), 16 I/O14 (io), 17 I/O13 (io), 18 I/O12 (io), 19 IN (in), 20 IN (in), 21 IN (in), 22 IN (in), 23 IN (in), 24 IN (in), 25 IN (in), 26 NC, 27 I/O18 (io), 28 I/O19 (io), 29 I/O20 (io), 30 I/O21 (io), 31 I/O22 (io), 32 I/O23 (io), 33 GND (power), 34 GND (power), 35 I/O11 (io), 36 I/O10 (io), 37 I/O9 (io), 38 I/O8 (io), 39 I/O7 (io), 40 I/O6 (io), 41 IN (in), 42 IN (in), 43 IN (in), 44 IN (in)

## ATV2500L-30LC
designator U?
ATV2500L 5.0V CPLD, 24 Macrocells, 44-pad Windowed LCC, Speed Grade 30, Commercial Grade; Note: Pin 4 and pin 26 are not internally connected.; DatasheetVersion: Rev. 0025E-05/98; PackageVersion: 1/12/1999; PackageReference: 44LW; PackageDescription: 44-Pin Window Ceramic Leadless Chip Carrier 1.27 mm Pitch; ComponentLink1Description: Manufacturer URL; ComponentLink1URL: http://www.atmel.com/
footprint 44LW_N (Leadless Chip Carrier, 44-Leads, Body 16.5x16.5mm, Pitch 1.27mm, IPC Medium Density)
footprint 44LW_L (Leadless Chip Carrier, 44-Leads, Body 16.5x16.5mm, Pitch 1.27mm, IPC High Density)
footprint 44LW_M (Leadless Chip Carrier, 44-Leads, Body 16.5x16.5mm, Pitch 1.27mm, IPC Low Density)
pins: 1 IN (in), 2 IN (in), 3 IN (in), 4 NC, 5 I/O0 (io), 6 I/O1 (io), 7 I/O2 (io), 8 I/O3 (io), 9 I/O4 (io), 10 I/O5 (io), 11 VCC (power), 12 VCC (power), 13 I/O17 (io), 14 I/O16 (io), 15 I/O15 (io), 16 I/O14 (io), 17 I/O13 (io), 18 I/O12 (io), 19 IN (in), 20 IN (in), 21 IN (in), 22 IN (in), 23 IN (in), 24 IN (in), 25 IN (in), 26 NC, 27 I/O18 (io), 28 I/O19 (io), 29 I/O20 (io), 30 I/O21 (io), 31 I/O22 (io), 32 I/O23 (io), 33 GND (power), 34 GND (power), 35 I/O11 (io), 36 I/O10 (io), 37 I/O9 (io), 38 I/O8 (io), 39 I/O7 (io), 40 I/O6 (io), 41 IN (in), 42 IN (in), 43 IN (in), 44 IN (in)

## ATV2500L-30LI
designator U?
ATV2500L 5.0V CPLD, 24 Macrocells, 44-pad Windowed LCC, Speed Grade 30, Industrial Grade; Note: Pin 4 and pin 26 are not internally connected.; DatasheetVersion: Rev. 0025E-05/98; PackageVersion: 1/12/1999; PackageReference: 44LW; PackageDescription: 44-Pin Window Ceramic Leadless Chip Carrier 1.27 mm Pitch; ComponentLink1Description: Manufacturer URL; ComponentLink1URL: http://www.atmel.com/
footprint 44LW_N (Leadless Chip Carrier, 44-Leads, Body 16.5x16.5mm, Pitch 1.27mm, IPC Medium Density)
footprint 44LW_L (Leadless Chip Carrier, 44-Leads, Body 16.5x16.5mm, Pitch 1.27mm, IPC High Density)
footprint 44LW_M (Leadless Chip Carrier, 44-Leads, Body 16.5x16.5mm, Pitch 1.27mm, IPC Low Density)
pins: 1 IN (in), 2 IN (in), 3 IN (in), 4 NC, 5 I/O0 (io), 6 I/O1 (io), 7 I/O2 (io), 8 I/O3 (io), 9 I/O4 (io), 10 I/O5 (io), 11 VCC (power), 12 VCC (power), 13 I/O17 (io), 14 I/O16 (io), 15 I/O15 (io), 16 I/O14 (io), 17 I/O13 (io), 18 I/O12 (io), 19 IN (in), 20 IN (in), 21 IN (in), 22 IN (in), 23 IN (in), 24 IN (in), 25 IN (in), 26 NC, 27 I/O18 (io), 28 I/O19 (io), 29 I/O20 (io), 30 I/O21 (io), 31 I/O22 (io), 32 I/O23 (io), 33 GND (power), 34 GND (power), 35 I/O11 (io), 36 I/O10 (io), 37 I/O9 (io), 38 I/O8 (io), 39 I/O7 (io), 40 I/O6 (io), 41 IN (in), 42 IN (in), 43 IN (in), 44 IN (in)

## ATV2500L-30LM
designator U?
ATV2500L 5.0V CPLD, 24 Macrocells, 44-pad Windowed LCC, Speed Grade 30, Military Grade; Note: Pin 4 and pin 26 are not internally connected.; DatasheetVersion: Rev. 0025E-05/98; PackageVersion: 1/12/1999; PackageReference: 44LW; PackageDescription: 44-Pin Window Ceramic Leadless Chip Carrier 1.27 mm Pitch; ComponentLink1Description: Manufacturer URL; ComponentLink1URL: http://www.atmel.com/
footprint 44LW_N (Leadless Chip Carrier, 44-Leads, Body 16.5x16.5mm, Pitch 1.27mm, IPC Medium Density)
footprint 44LW_L (Leadless Chip Carrier, 44-Leads, Body 16.5x16.5mm, Pitch 1.27mm, IPC High Density)
footprint 44LW_M (Leadless Chip Carrier, 44-Leads, Body 16.5x16.5mm, Pitch 1.27mm, IPC Low Density)
pins: 1 IN (in), 2 IN (in), 3 IN (in), 4 NC, 5 I/O0 (io), 6 I/O1 (io), 7 I/O2 (io), 8 I/O3 (io), 9 I/O4 (io), 10 I/O5 (io), 11 VCC (power), 12 VCC (power), 13 I/O17 (io), 14 I/O16 (io), 15 I/O15 (io), 16 I/O14 (io), 17 I/O13 (io), 18 I/O12 (io), 19 IN (in), 20 IN (in), 21 IN (in), 22 IN (in), 23 IN (in), 24 IN (in), 25 IN (in), 26 NC, 27 I/O18 (io), 28 I/O19 (io), 29 I/O20 (io), 30 I/O21 (io), 31 I/O22 (io), 32 I/O23 (io), 33 GND (power), 34 GND (power), 35 I/O11 (io), 36 I/O10 (io), 37 I/O9 (io), 38 I/O8 (io), 39 I/O7 (io), 40 I/O6 (io), 41 IN (in), 42 IN (in), 43 IN (in), 44 IN (in)

## ATV2500L-30LM/883
designator U?
ATV2500L 5.0V CPLD, 24 Macrocells, 44-pad Windowed LCC, Speed Grade 30, Military/883C Grade; Note: Pin 4 and pin 26 are not internally connected.; DatasheetVersion: Rev. 0025E-05/98; PackageVersion: 1/12/1999; PackageReference: 44LW; PackageDescription: 44-Pin Window Ceramic Leadless Chip Carrier 1.27 mm Pitch; ComponentLink1Description: Manufacturer URL; ComponentLink1URL: http://www.atmel.com/
footprint 44LW_N (Leadless Chip Carrier, 44-Leads, Body 16.5x16.5mm, Pitch 1.27mm, IPC Medium Density)
footprint 44LW_L (Leadless Chip Carrier, 44-Leads, Body 16.5x16.5mm, Pitch 1.27mm, IPC High Density)
footprint 44LW_M (Leadless Chip Carrier, 44-Leads, Body 16.5x16.5mm, Pitch 1.27mm, IPC Low Density)
pins: 1 IN (in), 2 IN (in), 3 IN (in), 4 NC, 5 I/O0 (io), 6 I/O1 (io), 7 I/O2 (io), 8 I/O3 (io), 9 I/O4 (io), 10 I/O5 (io), 11 VCC (power), 12 VCC (power), 13 I/O17 (io), 14 I/O16 (io), 15 I/O15 (io), 16 I/O14 (io), 17 I/O13 (io), 18 I/O12 (io), 19 IN (in), 20 IN (in), 21 IN (in), 22 IN (in), 23 IN (in), 24 IN (in), 25 IN (in), 26 NC, 27 I/O18 (io), 28 I/O19 (io), 29 I/O20 (io), 30 I/O21 (io), 31 I/O22 (io), 32 I/O23 (io), 33 GND (power), 34 GND (power), 35 I/O11 (io), 36 I/O10 (io), 37 I/O9 (io), 38 I/O8 (io), 39 I/O7 (io), 40 I/O6 (io), 41 IN (in), 42 IN (in), 43 IN (in), 44 IN (in)

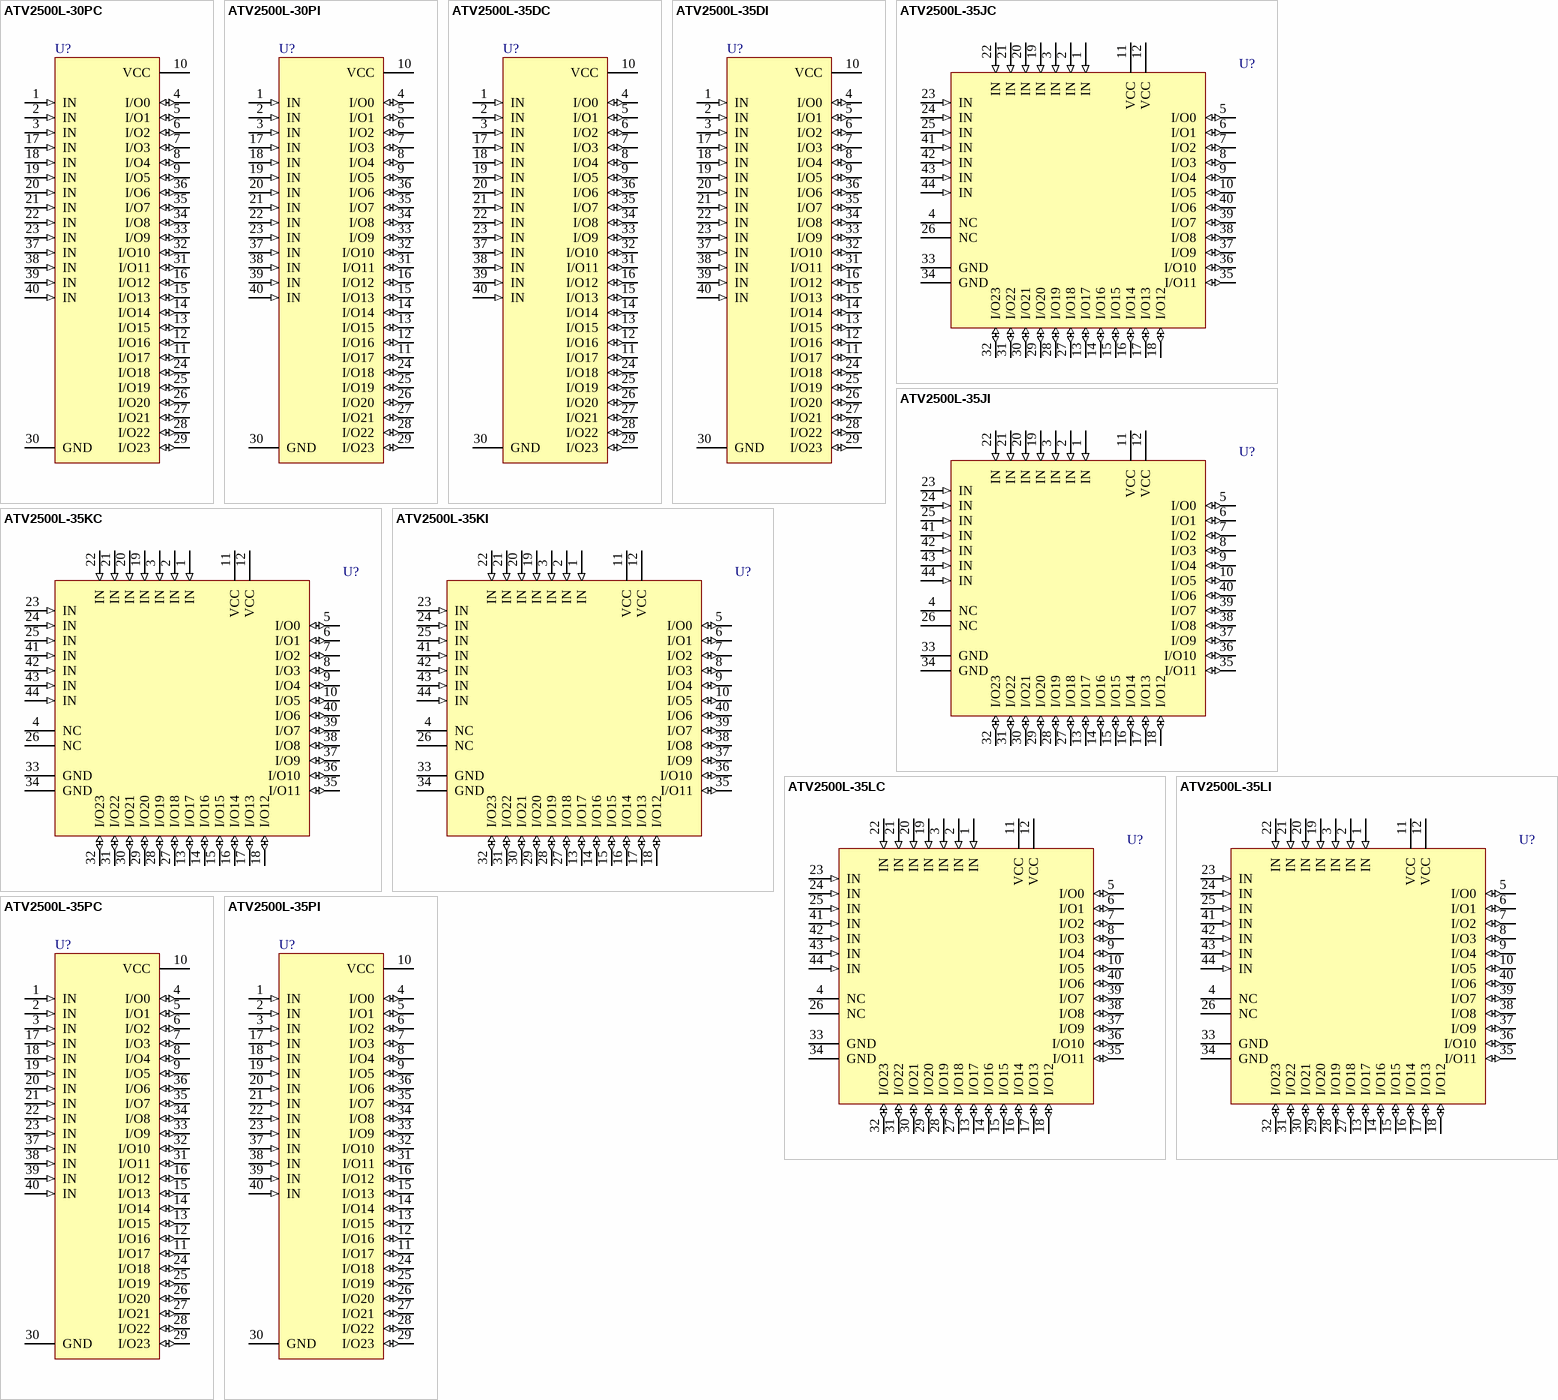
[diagram p10: symbols ATV2500L-30PC to ATV2500L-35PI]